# Altium schematic symbol library Schlib1.SchLib: 97 symbols (part 1 of 2)
Pins are listed as number, name and electrical type; pins without a type are passive.

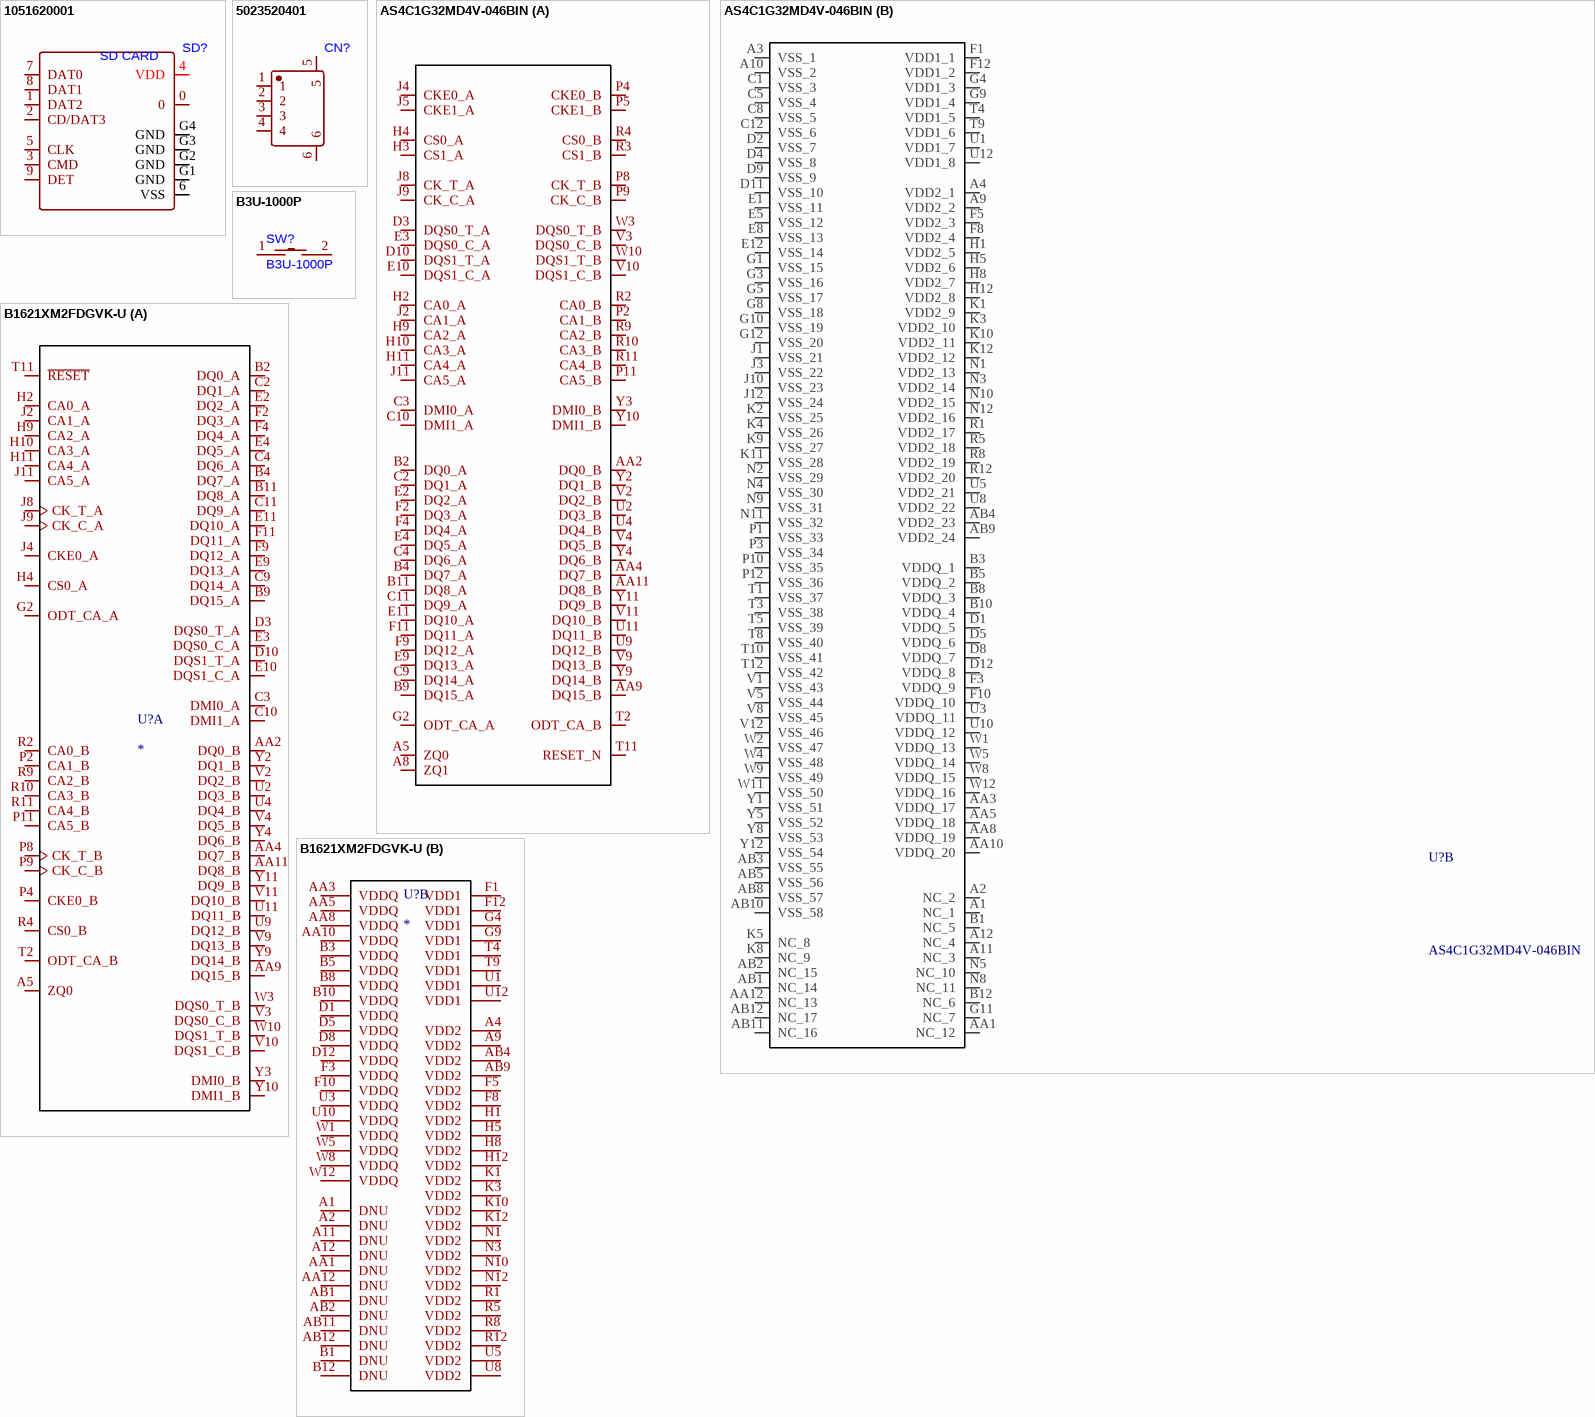
[diagram p0: symbols 1051620001 to B1621XM2FDGVK-U]

## 1051620001
designator SD?, comment SD CARD
CONN MICRO SD CARD (TF CARD)
footprint CONN-SMD_1051620101
pins: 0, 1 DAT2, 2 CD/DAT3, 3 CMD, 4 VDD, 5 CLK, 6 VSS, 7 DAT0, 8 DAT1, 9 DET, G1 GND, G2 GND, G3 GND, G4 GND

## 5023520401
designator CN?, comment SMD,P=2mm,Surface Mount,Right Angle  (value not drawn)
DuraClik(MX 2.0) 125V 4 1 2mm 3A Surface Mount, Right Angle Tin -40℃~+105℃ 4P Black 1x4P SMD,P=2mm,Surface Mount,Right Angle Headers, Male Pins RoHS
footprint CONN-SMD_4P-P2.00_WTBA0-BH004
pins: 1, 2, 3, 4, 5, 6

## AS4C1G32MD4V-046BIN
designator U?
DRAM LPDDR4X, 32Gb, 1G X 32, 0.6v, 200ball TFBGA,2133MHZ,industrial Temp; Manufacturer_Name: Alliance Memory; Geometry.Height: 1mm; Manufacturer_Part_Number: AS4C1G32MD4V-046BIN; Mouser Part Number: 913-AS4C1G32MD4046BI; Mouser Price/Stock: https://www.mouser.co.uk/ProductDetail/Alliance-Memory/AS4C1G32MD4V-046BIN?qs=2wMNvWM5ZX7JcOV9cKEgAg%3D%3D; Arrow Part Number: *; Arrow Price/Stock: *; Datasheet Link: https://www.alliancememory.com/wp-content/uploads/pdf/ddr4/AllianceMemory_8Gb_16Gb_32Gb_LPDDR4X_AS4C512M16MD4V_AS4C512M32MD4V_AS4C1G32MD4V.pdf
footprint BGA200C65P12X22_1000X1500X100
part A pins: A5 ZQ0, A8 ZQ1, AA2 DQ0_B, AA4 DQ7_B, AA9 DQ15_B, AA11 DQ8_B, B2 DQ0_A, B4 DQ7_A, B9 DQ15_A, B11 DQ8_A, C2 DQ1_A, C3 DMI0_A, C4 DQ6_A, C9 DQ14_A, C10 DMI1_A, C11 DQ9_A, D3 DQS0_T_A, D10 DQS1_T_A, E2 DQ2_A, E3 DQS0_C_A, E4 DQ5_A, E9 DQ13_A, E10 DQS1_C_A, E11 DQ10_A, F2 DQ3_A, F4 DQ4_A, F9 DQ12_A, F11 DQ11_A, G2 ODT_CA_A, H2 CA0_A, H3 CS1_A, H4 CS0_A, H9 CA2_A, H10 CA3_A, H11 CA4_A, J2 CA1_A, J4 CKE0_A, J5 CKE1_A, J8 CK_T_A, J9 CK_C_A, J11 CA5_A, P2 CA1_B, P4 CKE0_B, P5 CKE1_B, P8 CK_T_B, P9 CK_C_B, P11 CA5_B, R2 CA0_B, R3 CS1_B, R4 CS0_B, R9 CA2_B, R10 CA3_B, R11 CA4_B, T2 ODT_CA_B, T11 RESET_N, U2 DQ3_B, U4 DQ4_B, U9 DQ12_B, U11 DQ11_B, V2 DQ2_B, V3 DQS0_C_B, V4 DQ5_B, V9 DQ13_B, V10 DQS1_C_B, V11 DQ10_B, W3 DQS0_T_B, W10 DQS1_T_B, Y2 DQ1_B, Y3 DMI0_B, Y4 DQ6_B, Y9 DQ14_B, Y10 DMI1_B, Y11 DQ9_B
part B pins: A1 NC_1, A2 NC_2, A3 VSS_1, A4 VDD2_1, A9 VDD2_2, A10 VSS_2, A11 NC_3, A12 NC_4, AA1 NC_12, AA3 VDDQ_17, AA5 VDDQ_18, AA8 VDDQ_19, AA10 VDDQ_20, AA12 NC_13, AB1 NC_14, AB2 NC_15, AB3 VSS_55, AB4 VDD2_23, AB5 VSS_56, AB8 VSS_57, AB9 VDD2_24, AB10 VSS_58, AB11 NC_16, AB12 NC_17, B1 NC_5, B3 VDDQ_1, B5 VDDQ_2, B8 VDDQ_3, B10 VDDQ_4, B12 NC_6, C1 VSS_3, C5 VSS_4, C8 VSS_5, C12 VSS_6, D1 VDDQ_5, D2 VSS_7, D4 VSS_8, D5 VDDQ_6, D8 VDDQ_7, D9 VSS_9, D11 VSS_10, D12 VDDQ_8, E1 VSS_11, E5 VSS_12, E8 VSS_13, E12 VSS_14, F1 VDD1_1, F3 VDDQ_9, F5 VDD2_3, F8 VDD2_4, F10 VDDQ_10, F12 VDD1_2, G1 VSS_15, G3 VSS_16, G4 VDD1_3, G5 VSS_17, G8 VSS_18, G9 VDD1_4, G10 VSS_19, G11 NC_7, G12 VSS_20, H1 VDD2_5, H5 VDD2_6, H8 VDD2_7, H12 VDD2_8, J1 VSS_21, J3 VSS_22, J10 VSS_23, J12 VSS_24, K1 VDD2_9, K2 VSS_25, K3 VDD2_10, K4 VSS_26, K5 NC_8, K8 NC_9, K9 VSS_27, K10 VDD2_11, K11 VSS_28, K12 VDD2_12, N1 VDD2_13, N2 VSS_29, N3 VDD2_14, N4 VSS_30, N5 NC_10, N8 NC_11, N9 VSS_31, N10 VDD2_15, N11 VSS_32, N12 VDD2_16, P1 VSS_33, P3 VSS_34, P10 VSS_35, P12 VSS_36, R1 VDD2_17, R5 VDD2_18, R8 VDD2_19, R12 VDD2_20, T1 VSS_37, T3 VSS_38, T4 VDD1_5, T5 VSS_39, T8 VSS_40, T9 VDD1_6, T10 VSS_41, T12 VSS_42, U1 VDD1_7, U3 VDDQ_11, U5 VDD2_21, U8 VDD2_22, U10 VDDQ_12, U12 VDD1_8, V1 VSS_43, V5 VSS_44, V8 VSS_45, V12 VSS_46, W1 VDDQ_13, W2 VSS_47, W4 VSS_48, W5 VDDQ_14, W8 VDDQ_15, W9 VSS_49, W11 VSS_50, W12 VDDQ_16, Y1 VSS_51, Y5 VSS_52, Y8 VSS_53, Y12 VSS_54

## B3U-1000P
designator SW?
12V 2.5mm Round Button 3mm SPST 50mA SMD,3x2.5mm Tactile Switches ROHS
footprint KEY-SMD_B3U-1000PM
pins: 1, 2

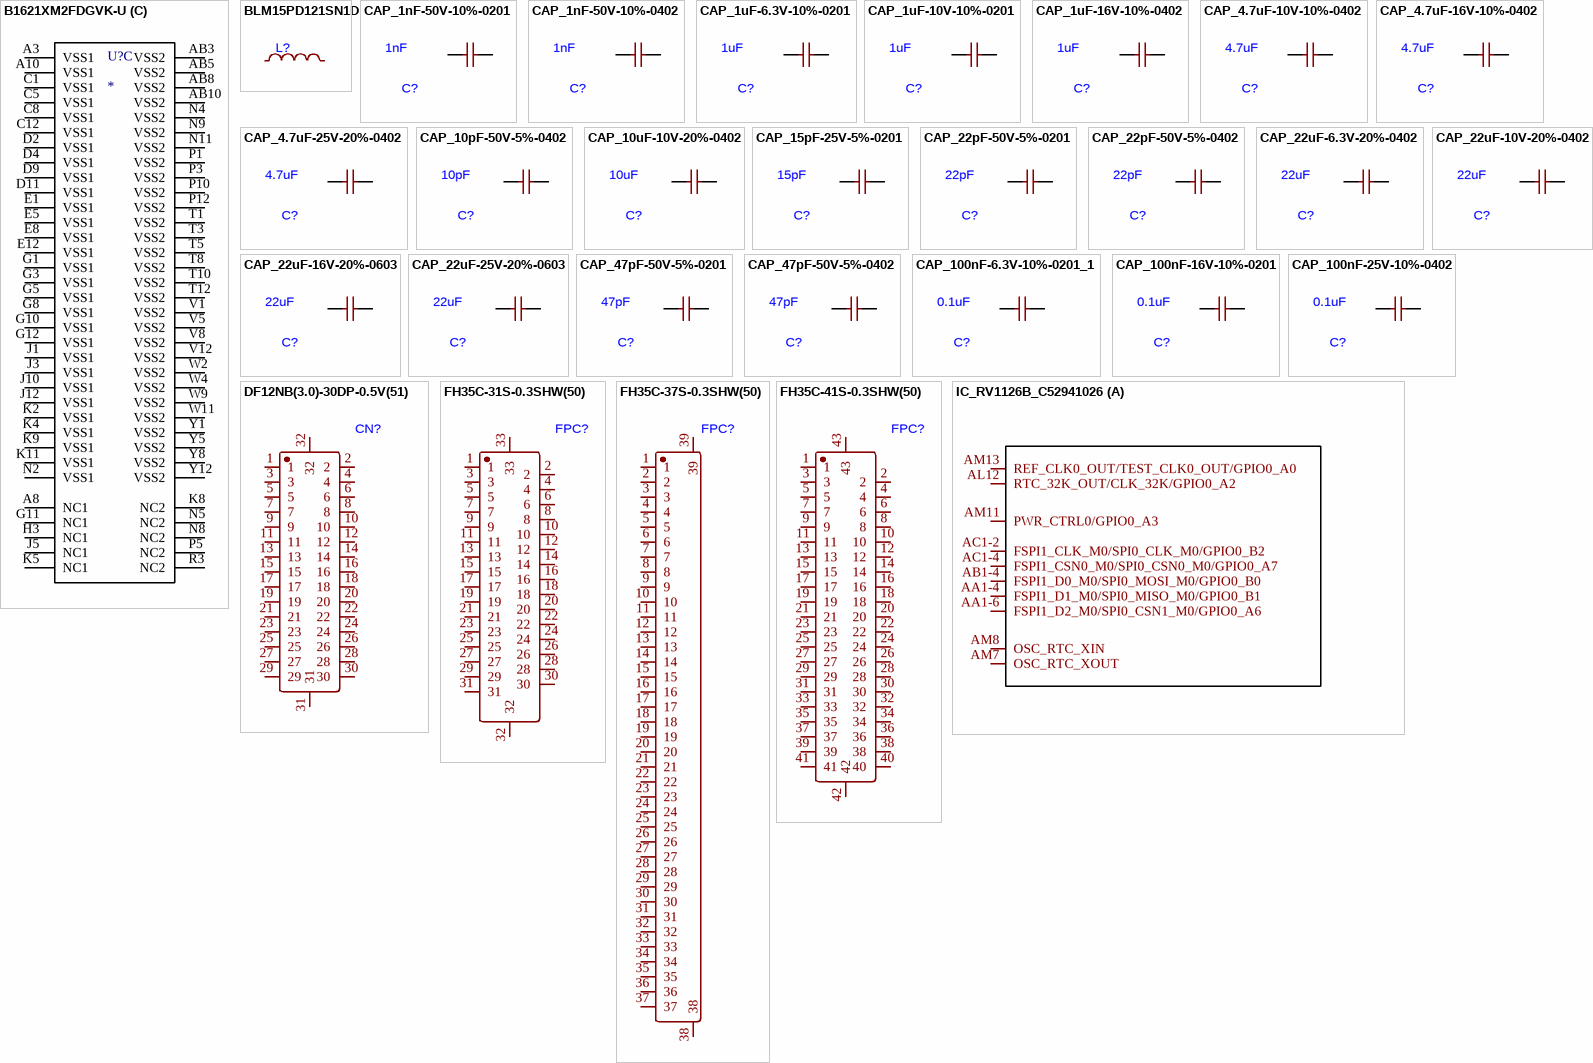
[diagram p1: symbols B1621XM2FDGVK-U to IC_RV1126B_C52941026]

## B1621XM2FDGVK-U
designator U?
MP: B1621XM2FDGVK-U; Package: None; Price: None; Value: *; Availability: Unavailable
footprint IC_B1621XM2FDGVK-U
part A pins: A5 ZQ0, AA2 DQ0_B, AA4 DQ7_B, AA9 DQ15_B, AA11 DQ8_B, B2 DQ0_A, B4 DQ7_A, B9 DQ15_A, B11 DQ8_A, C2 DQ1_A, C3 DMI0_A, C4 DQ6_A, C9 DQ14_A, C10 DMI1_A, C11 DQ9_A, D3 DQS0_T_A, D10 DQS1_T_A, E2 DQ2_A, E3 DQS0_C_A, E4 DQ5_A, E9 DQ13_A, E10 DQS1_C_A, E11 DQ10_A, F2 DQ3_A, F4 DQ4_A, F9 DQ12_A, F11 DQ11_A, G2 ODT_CA_A, H2 CA0_A, H4 CS0_A, H9 CA2_A, H10 CA3_A, H11 CA4_A, J2 CA1_A, J4 CKE0_A, J8 CK_T_A, J9 CK_C_A, J11 CA5_A, P2 CA1_B, P4 CKE0_B, P8 CK_T_B, P9 CK_C_B, P11 CA5_B, R2 CA0_B, R4 CS0_B, R9 CA2_B, R10 CA3_B, R11 CA4_B, T2 ODT_CA_B, T11 ~{RESET}, U2 DQ3_B, U4 DQ4_B, U9 DQ12_B, U11 DQ11_B, V2 DQ2_B, V3 DQS0_C_B, V4 DQ5_B, V9 DQ13_B, V10 DQS1_C_B, V11 DQ10_B, W3 DQS0_T_B, W10 DQS1_T_B, Y2 DQ1_B, Y3 DMI0_B, Y4 DQ6_B, Y9 DQ14_B, Y10 DMI1_B, Y11 DQ9_B
part B pins: A1 DNU, A2 DNU, A4 VDD2 (power), A9 VDD2 (power), A11 DNU, A12 DNU, AA1 DNU, AA3 VDDQ (power), AA5 VDDQ (power), AA8 VDDQ (power), AA10 VDDQ (power), AA12 DNU, AB1 DNU, AB2 DNU, AB4 VDD2 (power), AB9 VDD2 (power), AB11 DNU, AB12 DNU, B1 DNU, B3 VDDQ (power), B5 VDDQ (power), B8 VDDQ (power), B10 VDDQ (power), B12 DNU, D1 VDDQ (power), D5 VDDQ (power), D8 VDDQ (power), D12 VDDQ (power), F1 VDD1 (power), F3 VDDQ (power), F5 VDD2 (power), F8 VDD2 (power), F10 VDDQ (power), F12 VDD1 (power), G4 VDD1 (power), G9 VDD1 (power), H1 VDD2 (power), H5 VDD2 (power), H8 VDD2 (power), H12 VDD2 (power), K1 VDD2 (power), K3 VDD2 (power), K10 VDD2 (power), K12 VDD2 (power), N1 VDD2 (power), N3 VDD2 (power), N10 VDD2 (power), N12 VDD2 (power), R1 VDD2 (power), R5 VDD2 (power), R8 VDD2 (power), R12 VDD2 (power), T4 VDD1 (power), T9 VDD1 (power), U1 VDD1 (power), U3 VDDQ (power), U5 VDD2 (power), U8 VDD2 (power), U10 VDDQ (power), U12 VDD1 (power), W1 VDDQ (power), W5 VDDQ (power), W8 VDDQ (power), W12 VDDQ (power)
part C pins: A3 VSS1 (power), A8 NC1, A10 VSS1 (power), AB3 VSS2 (power), AB5 VSS2 (power), AB8 VSS2 (power), AB10 VSS2 (power), C1 VSS1 (power), C5 VSS1 (power), C8 VSS1 (power), C12 VSS1 (power), D2 VSS1 (power), D4 VSS1 (power), D9 VSS1 (power), D11 VSS1 (power), E1 VSS1 (power), E5 VSS1 (power), E8 VSS1 (power), E12 VSS1 (power), G1 VSS1 (power), G3 VSS1 (power), G5 VSS1 (power), G8 VSS1 (power), G10 VSS1 (power), G11 NC1, G12 VSS1 (power), H3 NC1, J1 VSS1 (power), J3 VSS1 (power), J5 NC1, J10 VSS1 (power), J12 VSS1 (power), K2 VSS1 (power), K4 VSS1 (power), K5 NC1, K8 NC2, K9 VSS1 (power), K11 VSS1 (power), N2 VSS1 (power), N4 VSS2 (power), N5 NC2, N8 NC2, N9 VSS2 (power), N11 VSS2 (power), P1 VSS2 (power), P3 VSS2 (power), P5 NC2, P10 VSS2 (power), P12 VSS2 (power), R3 NC2, T1 VSS2 (power), T3 VSS2 (power), T5 VSS2 (power), T8 VSS2 (power), T10 VSS2 (power), T12 VSS2 (power), V1 VSS2 (power), V5 VSS2 (power), V8 VSS2 (power), V12 VSS2 (power), W2 VSS2 (power), W4 VSS2 (power), W9 VSS2 (power), W11 VSS2 (power), Y1 VSS2 (power), Y5 VSS2 (power), Y8 VSS2 (power), Y12 VSS2 (power)

## BLM15PD121SN1D
designator L?, comment FERRITE BEAD 120Ω 0402 1LN  (value not drawn)
120 Ohms @ 100MHz 1 Power Line Ferrite Bead 0402 (1005 Metric) 1.3A 90mOhm
simulation model FB_220_ADV (Model Description)
footprint R0402 (0402)
pins: 1, 2

## CAP_1nF-50V-10%-0201
designator C?, comment 1nF
CAP CER 1nF 50V X7R 0201
footprint C0201
pins: 1, 2

## CAP_1nF-50V-10%-0402
designator C?, comment 1nF
CAP CER 1nF 50V X7R 0402
footprint C0603 (cap 0603)
pins: 1, 2

## CAP_1uF-6.3V-10%-0201
designator C?, comment 1uF
1uF ±10% 6.3V Ceramic Capacitor X5R 0201
footprint C0201
pins: 1, 2

## CAP_1uF-10V-10%-0201
designator C?, comment 1uF
1uF ±10% 10V Ceramic Capacitor X5R 0201
footprint C0201
pins: 1, 2

## CAP_1uF-16V-10%-0402
designator C?, comment 1uF
1µF ±10% 16V Ceramic Capacitor X5R 0402 (1005 Metric)
footprint C0402 (cap)
pins: 1, 2

## CAP_4.7uF-10V-10%-0402
designator C?, comment 4.7uF
4.7µF ±10% 10V Ceramic Capacitor X5R 0402 (1005 Metric)
footprint C0402 (cap)
pins: 1, 2

## CAP_4.7uF-16V-10%-0402
designator C?, comment 4.7uF
4.7uF ±10% 16V Ceramic Capacitor X5R 0402
footprint C0402 (cap)
pins: 1, 2

## CAP_4.7uF-25V-20%-0402
designator C?, comment 4.7uF
4.7uF ±20% 25V Ceramic Capacitor X5R 0402
footprint C0402 (cap)
pins: 1, 2

## CAP_10pF-50V-5%-0402
designator C?, comment 10pF
CAP CER 10pF 50V C0G 0402
footprint C0603 (cap 0603)
pins: 1, 2

## CAP_10uF-10V-20%-0402
designator C?, comment 10uF
10µF ±20% 10V Ceramic Capacitor X5R 0402 (1005 Metric)
footprint C0402 (cap)
pins: 1, 2

## CAP_15pF-25V-5%-0201
designator C?, comment 15pF
CAP CER 15pF 50V NP0 0201; ComponentLink1Description: LCSC; ComponentLink1URL: https://www.lcsc.com/product-detail/C277480.html?s_z=n_q_t_15PF&spm=wm.fly.bg.0.xh___wm.ssy.tc.0.tz&lcsc_vid=EwRWBFZSQVIPVFdUTlJfVldeFFRYUFQAElRYBFRRE1MxVlNeRFdcX11TTlBaVjsOAxUeFF5JWBYZEEoKFBINSQcJGk4NBhADEA4cHktXRlRZSQwSGg0%3D
footprint C0201
pins: 1, 2

## CAP_22pF-50V-5%-0201
designator C?, comment 22pF
CAP CER 22pF 50V NP0 0201
footprint C0201
pins: 1, 2

## CAP_22pF-50V-5%-0402
designator C?, comment 22pF
CAP CER 22pF 50V NP0 0402
footprint C0402 (cap)
pins: 1, 2

## CAP_22uF-6.3V-20%-0402
designator C?, comment 22uF
22uF X5R ±20% 6.3V 0402 Ceramic Capacitors RoHS; ComponentLink1Description: LCSC; ComponentLink1URL: https://www.lcsc.com/product-detail/C385994.html?s_z=n_q_t_22UF&spm=wm.fly.bg.2.xh___wm.ssy.tc.2.tz&lcsc_vid=EwRWBFZSQVIPVFdUTlJfVldeFFRYUFQAElRYBFRRE1MxVlNeRFZbX1BRRVlbVDsOAxUeFF5JWBYZEEoKFBINSQcJGk4NBhADEA4cHktXRlhXSQwSGg0%3D
footprint C0402 (cap)
pins: 1, 2

## CAP_22uF-10V-20%-0402
designator C?, comment 22uF
22uF X5R ±20% 10V 0402 Ceramic Capacitors RoHS; ComponentLink1Description: LCSC; ComponentLink1URL: https://www.lcsc.com/product-detail/C385994.html?s_z=n_q_t_22UF&spm=wm.fly.bg.2.xh___wm.ssy.tc.2.tz&lcsc_vid=EwRWBFZSQVIPVFdUTlJfVldeFFRYUFQAElRYBFRRE1MxVlNeRFZbX1BRRVlbVDsOAxUeFF5JWBYZEEoKFBINSQcJGk4NBhADEA4cHktXRlhXSQwSGg0%3D
footprint C0402 (cap)
pins: 1, 2

## CAP_22uF-16V-20%-0603
designator C?, comment 22uF
22uF ±20% 16V Ceramic Capacitor X5R 0603
footprint C0603 (cap 0603)
pins: 1, 2

## CAP_22uF-25V-20%-0603
designator C?, comment 22uF
22uF ±20% 25V Ceramic Capacitor X5R 0603
footprint C0603 (cap 0603)
pins: 1, 2

## CAP_47pF-50V-5%-0201
designator C?, comment 47pF
CAP CER  47pF ±5% 50V C0G 0201
footprint C0201
pins: 1, 2

## CAP_47pF-50V-5%-0402
designator C?, comment 47pF
4P7µF ±5% 50V Ceramic Capacitor X5R 0402 (1005 Metric); ComponentLink1Description: LCSC; ComponentLink1URL: https://www.lcsc.com/product-detail/C60137.html?s_z=n_q_t_47PF&spm=wm.fly.bg.1.xh___wm.ssy.tc.0.tz&lcsc_vid=EwRWBFZSQVIPVFdUTlJfVldeFFRYUFQAElRYBFRRE1MxVlNeRVlXVVRWRlJYVDsOAxUeFF5JWBYZEEoKFBINSQcJGk4NBhADEA4cHktXRlVcSQwSGg0%3D
footprint C0402 (cap)
pins: 1, 2

## CAP_100nF-6.3V-10%-0201_1
designator C?, comment 0.1uF
0.1uF ±10% 6.3V Ceramic Capacitor X5R 0201
footprint C0201
pins: 1, 2

## CAP_100nF-16V-10%-0201
designator C?, comment 0.1uF
CAP CER 100nF 16V X5R 0201
footprint C0201
pins: 1, 2

## CAP_100nF-25V-10%-0402
designator C?, comment 0.1uF
0.1µF ±10% 25V Ceramic Capacitor X7R 0402 (1005 Metric)
footprint C0402 (cap)
pins: 1, 2

## DF12NB(3.0)-30DP-0.5V(51)
designator CN?  (value not drawn)
0.5mm Pitch SMT Board-to-Board Connectors, 5Gbps Transmission Speed
footprint CONN-SMD_30P-P0.50_HRS_DF12NB-3.0-30DP-0.5V
pins: 1, 2, 3, 4, 5, 6, 7, 8, 9, 10, 11, 12, 13, 14, 15, 16, 17, 18, 19, 20, 21, 22, 23, 24, 25, 26, 27, 28, 29, 30, 31, 32

## FH35C-31S-0.3SHW(50)
designator FPC?  (value not drawn)
CONN FFC FPC 31POS 0.3mm TOP AND BOTTOM CNT SMD R/A
footprint CONN-SMD_31P-P0.6_FH35C-31S-0.3SHW-50
pins: 1, 2, 3, 4, 5, 6, 7, 8, 9, 10, 11, 12, 13, 14, 15, 16, 17, 18, 19, 20, 21, 22, 23, 24, 25, 26, 27, 28, 29, 30, 31, 32, 33

## FH35C-37S-0.3SHW(50)
designator FPC?  (value not drawn)
FFC/FPC Connector 37 Position 0.3mm Pitch Double-Sided Contacts, Top and Bottom Entry Surface Mount, Right Angle -55℃~+85℃
footprint FPC-SMD_37P-P0.60_FH35C-37S-0.3SHW-50
pins: 1, 2, 3, 4, 5, 6, 7, 8, 9, 10, 11, 12, 13, 14, 15, 16, 17, 18, 19, 20, 21, 22, 23, 24, 25, 26, 27, 28, 29, 30, 31, 32, 33, 34, 35, 36, 37, 38, 39

## FH35C-41S-0.3SHW(50)
designator FPC?  (value not drawn)
CONN FFC FPC 41POS 0.3mm TOP AND BOTTOM CNT SMD R/A
footprint FPC-SMD_FH35C-41S-0.3SHW-50
pins: 1, 2, 3, 4, 5, 6, 7, 8, 9, 10, 11, 12, 13, 14, 15, 16, 17, 18, 19, 20, 21, 22, 23, 24, 25, 26, 27, 28, 29, 30, 31, 32, 33, 34, 35, 36, 37, 38, 39, 40, 41, 42, 43

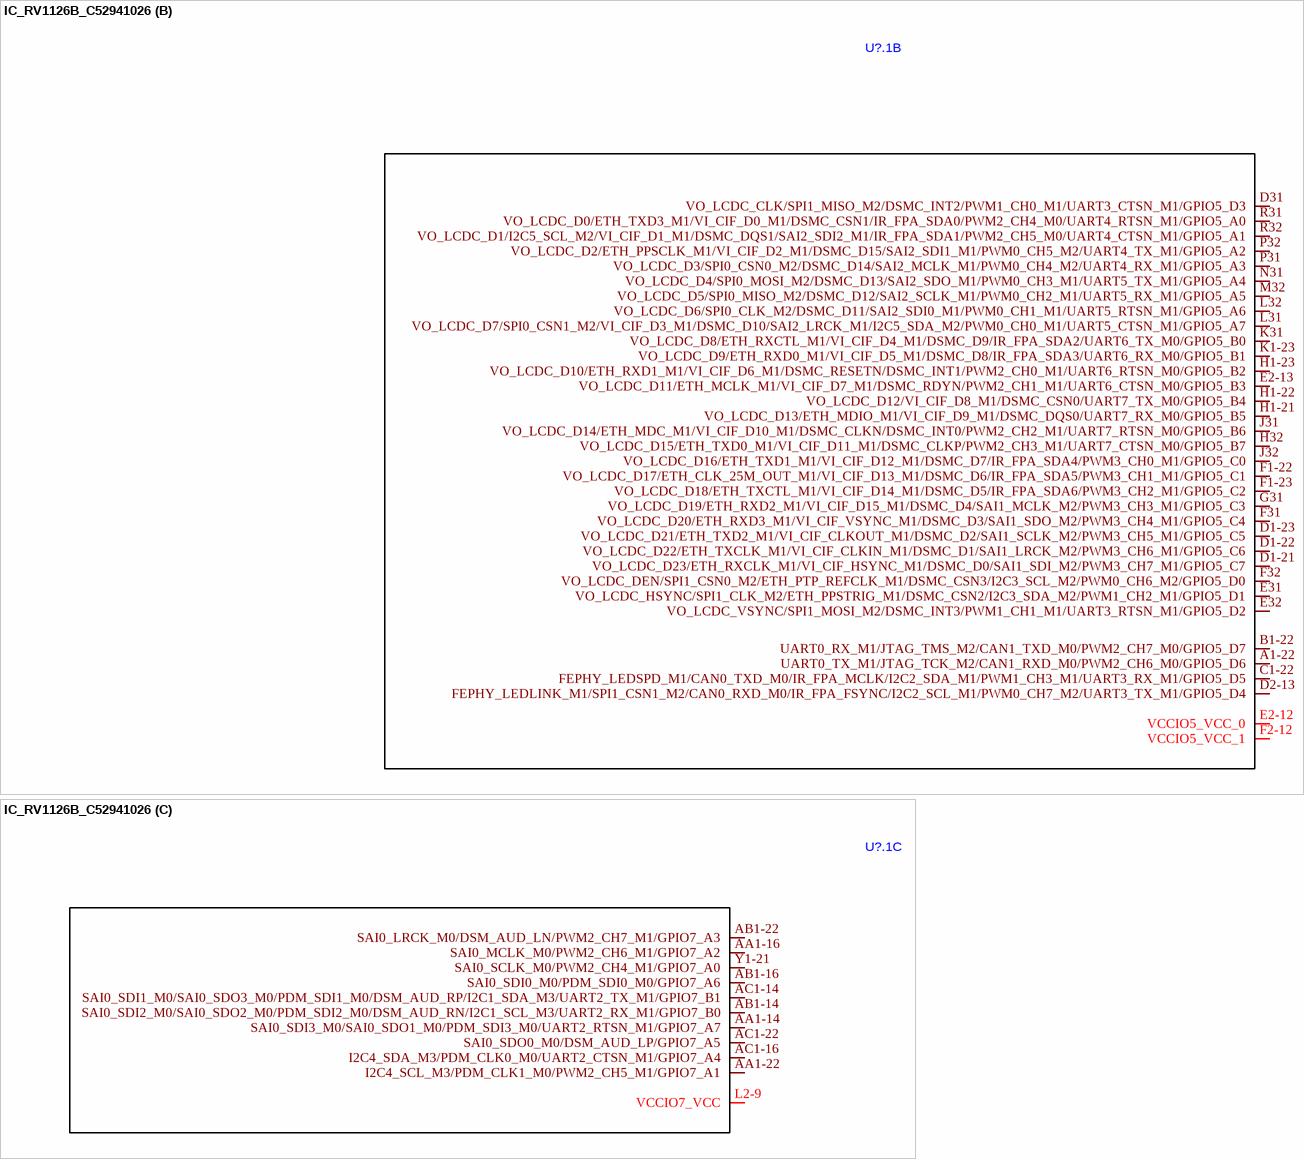
[diagram p2: symbol IC_RV1126B_C52941026]

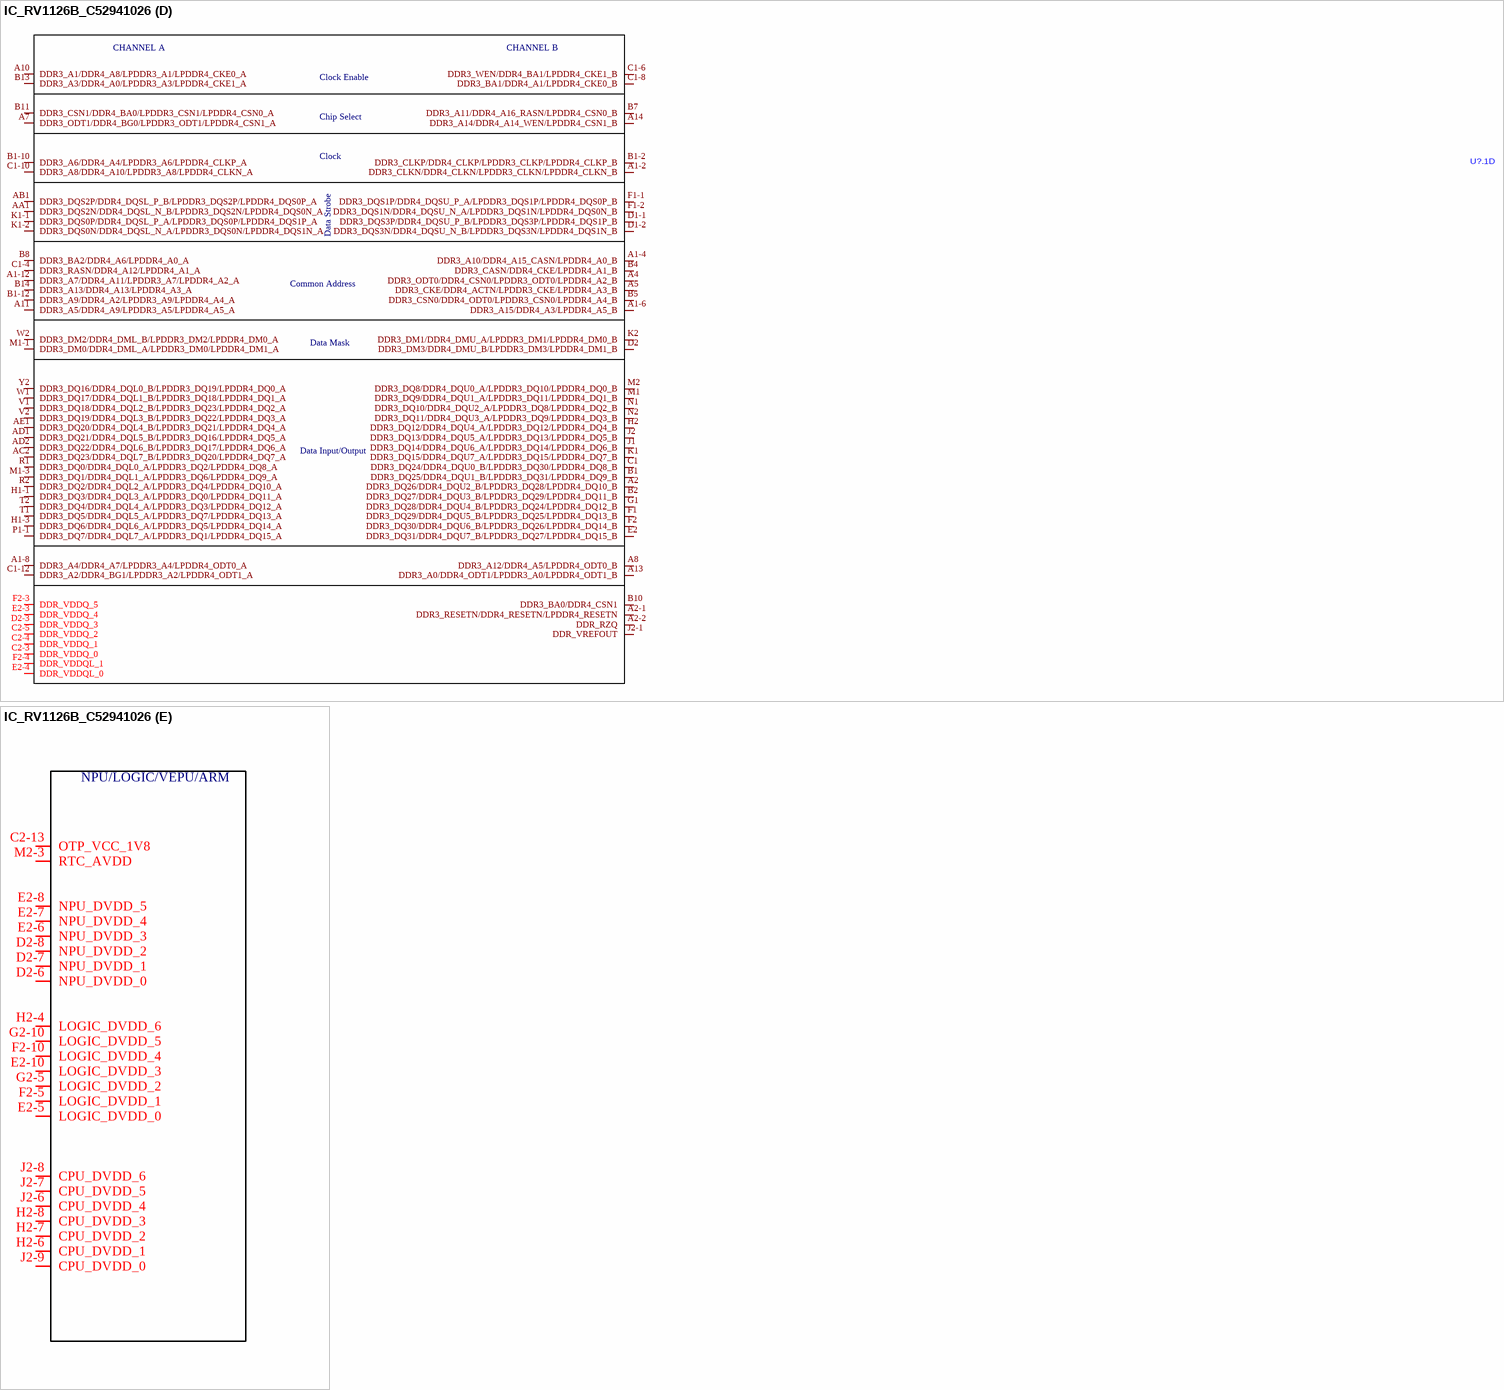
[diagram p3: symbol IC_RV1126B_C52941026]

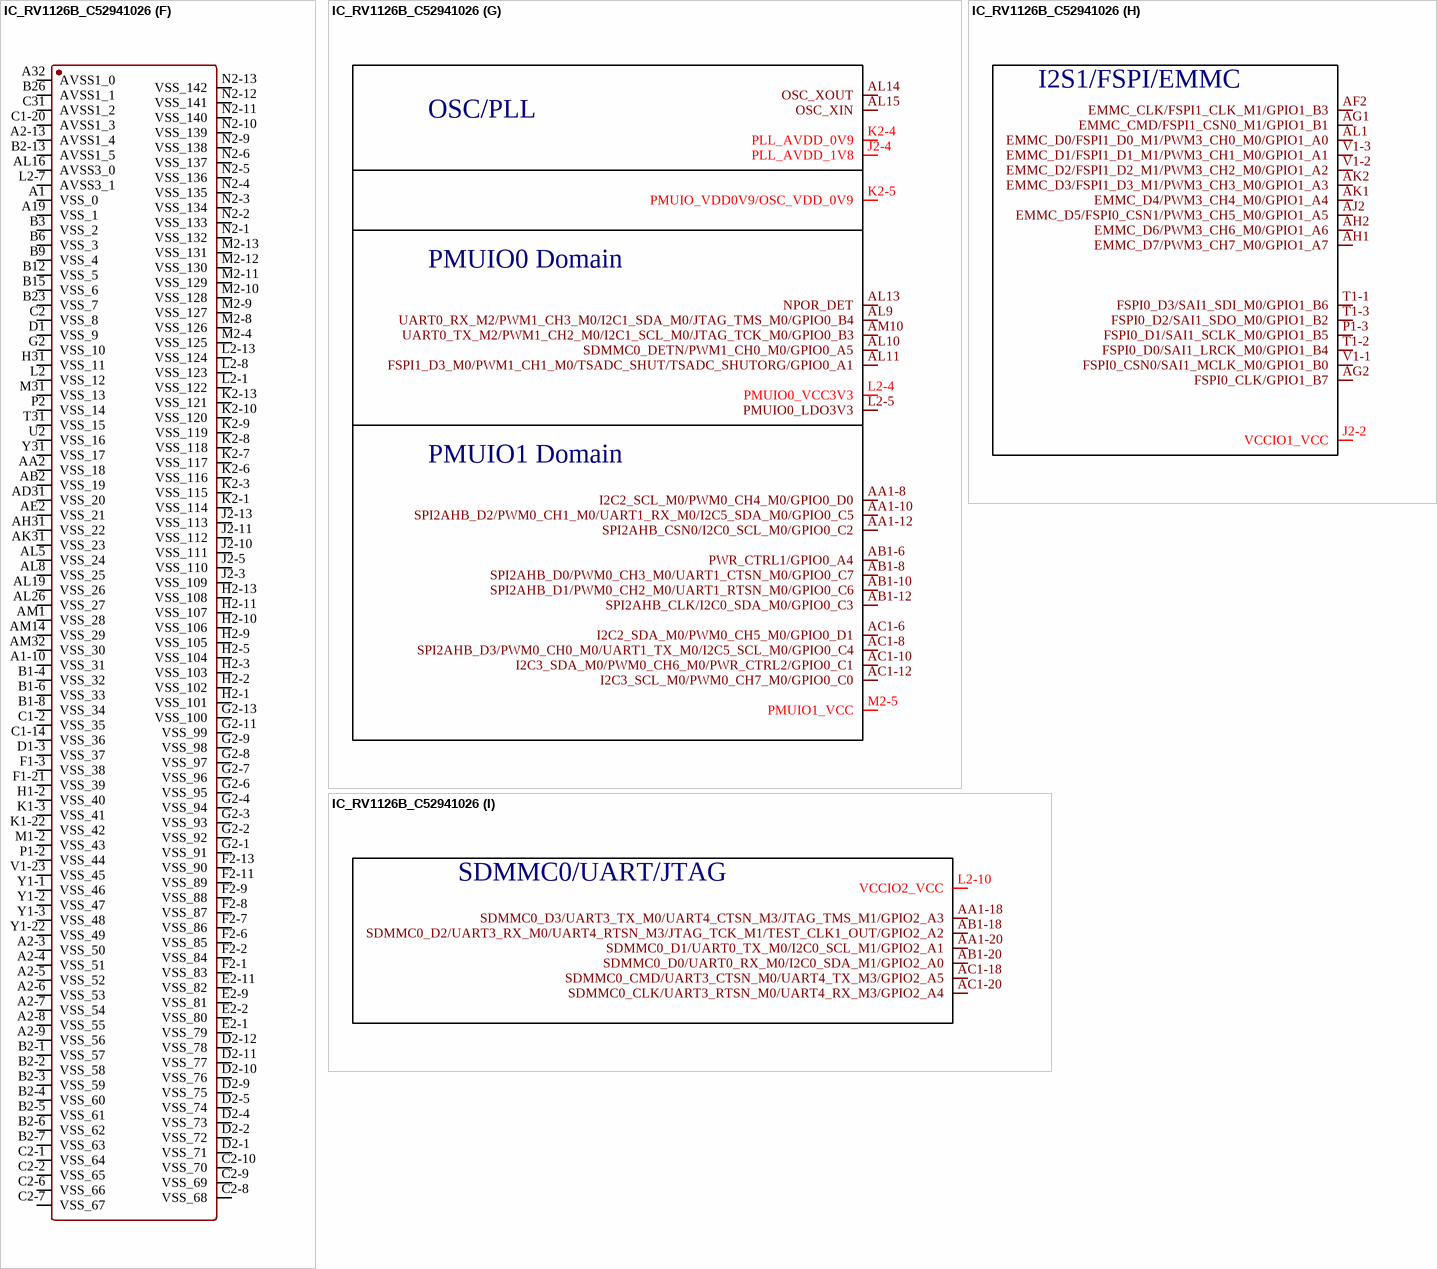
[diagram p4: symbol IC_RV1126B_C52941026]

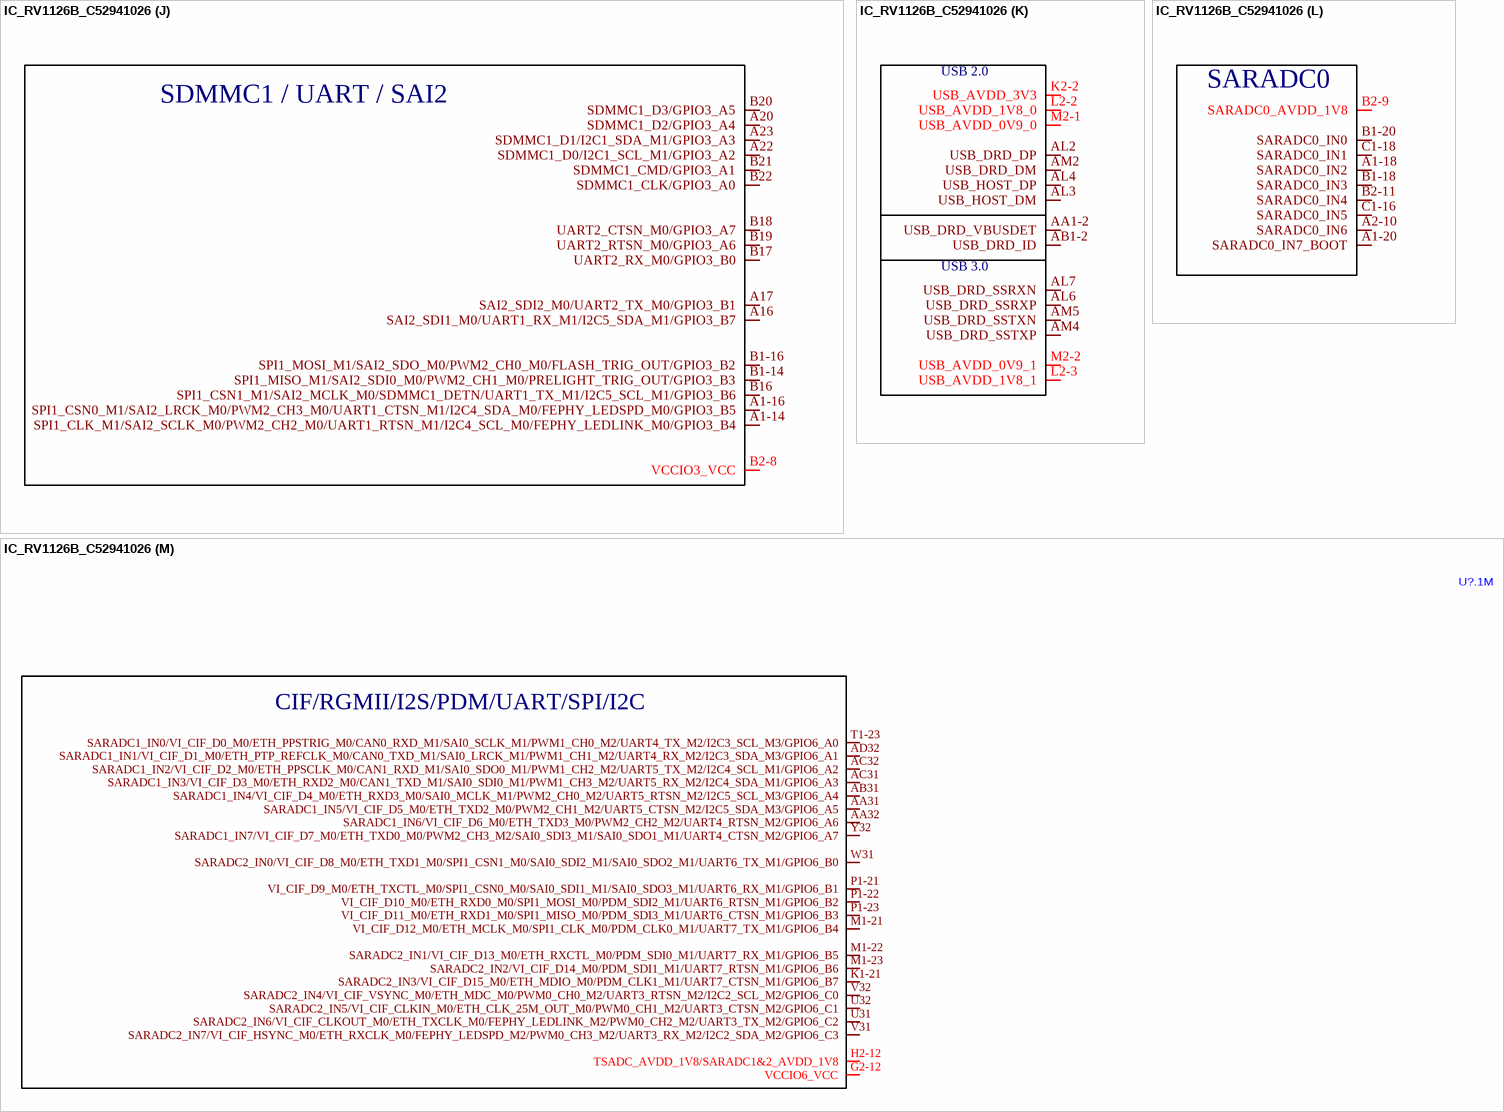
[diagram p5: symbol IC_RV1126B_C52941026]

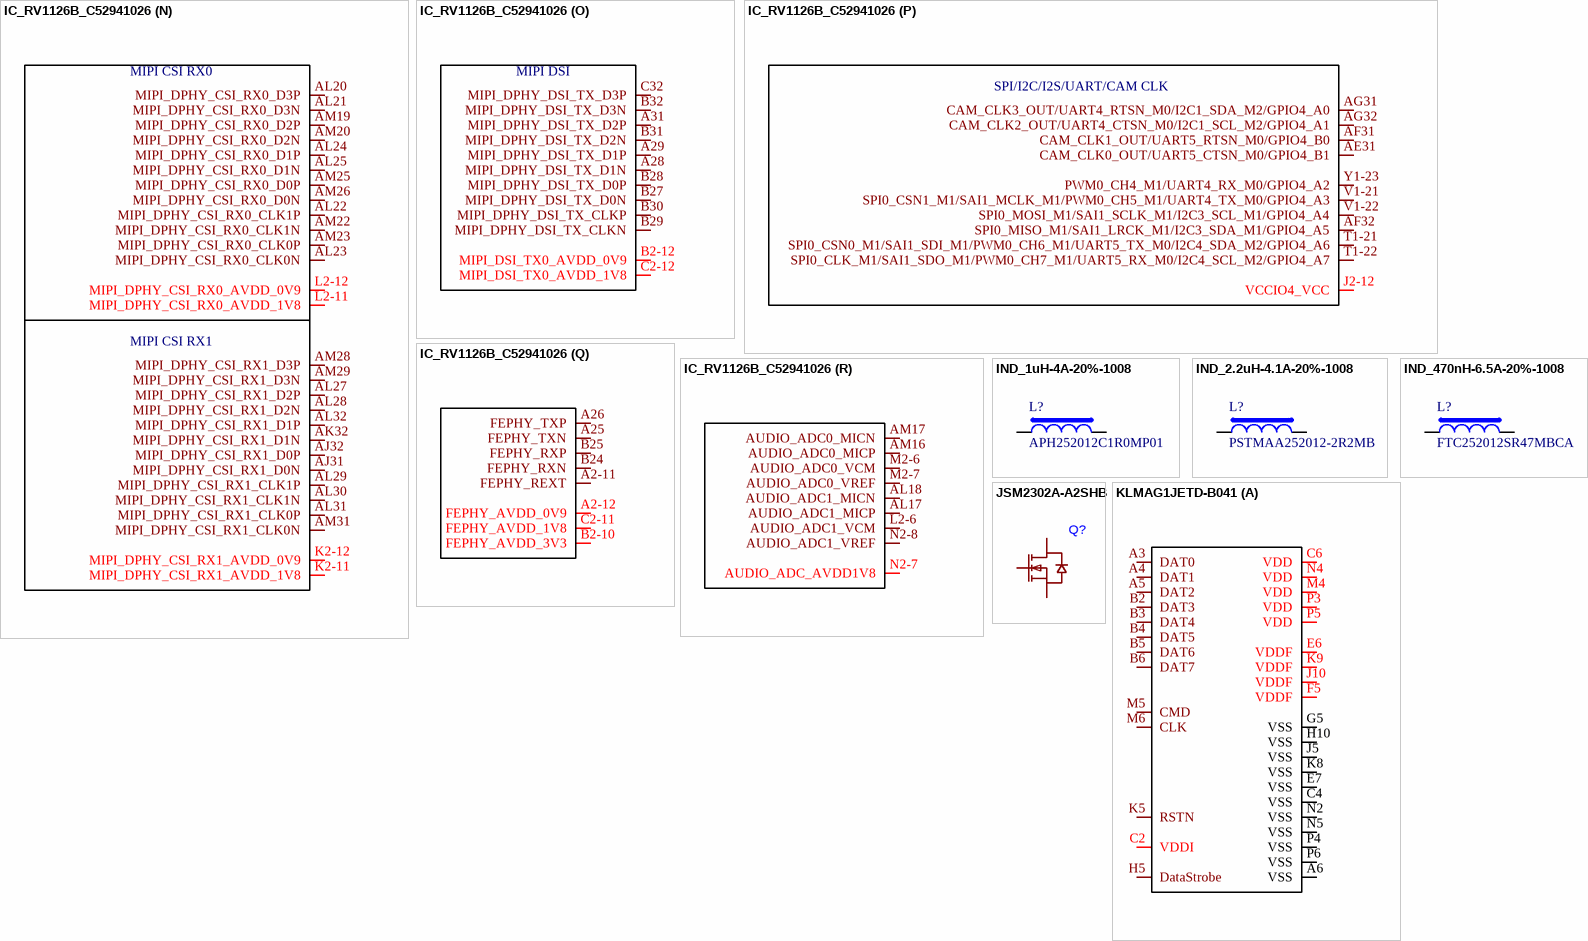
[diagram p6: symbols IC_RV1126B_C52941026 to KLMAG1JETD-B041]

## IC_RV1126B_C52941026
designator U?.1
footprint CCSP-491_L14.0-W14.0-TL_RV1126B
part A pins: AA1-4 FSPI1_D1_M0/SPI0_MISO_M0/GPIO0_B1, AA1-6 FSPI1_D2_M0/SPI0_CSN1_M0/GPIO0_A6, AB1-4 FSPI1_D0_M0/SPI0_MOSI_M0/GPIO0_B0, AC1-2 FSPI1_CLK_M0/SPI0_CLK_M0/GPIO0_B2, AC1-4 FSPI1_CSN0_M0/SPI0_CSN0_M0/GPIO0_A7, AL12 RTC_32K_OUT/CLK_32K/GPIO0_A2, AM7 OSC_RTC_XOUT, AM8 OSC_RTC_XIN, AM11 PWR_CTRL0/GPIO0_A3, AM13 REF_CLK0_OUT/TEST_CLK0_OUT/GPIO0_A0
part B pins: A1-22 UART0_TX_M1/JTAG_TCK_M2/CAN1_RXD_M0/PWM2_CH6_M0/GPIO5_D6, B1-22 UART0_RX_M1/JTAG_TMS_M2/CAN1_TXD_M0/PWM2_CH7_M0/GPIO5_D7, C1-22 FEPHY_LEDSPD_M1/CAN0_TXD_M0/IR_FPA_MCLK/I2C2_SDA_M1/PWM1_CH3_M1/UART3_RX_M1/GPIO5_D5, D1-21 VO_LCDC_D23/ETH_RXCLK_M1/VI_CIF_HSYNC_M1/DSMC_D0/SAI1_SDI_M2/PWM3_CH7_M1/GPIO5_C7, D1-22 VO_LCDC_D22/ETH_TXCLK_M1/VI_CIF_CLKIN_M1/DSMC_D1/SAI1_LRCK_M2/PWM3_CH6_M1/GPIO5_C6, D1-23 VO_LCDC_D21/ETH_TXD2_M1/VI_CIF_CLKOUT_M1/DSMC_D2/SAI1_SCLK_M2/PWM3_CH5_M1/GPIO5_C5, D2-13 FEPHY_LEDLINK_M1/SPI1_CSN1_M2/CAN0_RXD_M0/IR_FPA_FSYNC/I2C2_SCL_M1/PWM0_CH7_M2/UART3_TX_M1/GPIO5_D4, D31 VO_LCDC_CLK/SPI1_MISO_M2/DSMC_INT2/PWM1_CH0_M1/UART3_CTSN_M1/GPIO5_D3, E2-12 VCCIO5_VCC_0, E2-13 VO_LCDC_D11/ETH_MCLK_M1/VI_CIF_D7_M1/DSMC_RDYN/PWM2_CH1_M1/UART6_CTSN_M0/GPIO5_B3, E31 VO_LCDC_HSYNC/SPI1_CLK_M2/ETH_PPSTRIG_M1/DSMC_CSN2/I2C3_SDA_M2/PWM1_CH2_M1/GPIO5_D1, E32 VO_LCDC_VSYNC/SPI1_MOSI_M2/DSMC_INT3/PWM1_CH1_M1/UART3_RTSN_M1/GPIO5_D2, F1-22 VO_LCDC_D17/ETH_CLK_25M_OUT_M1/VI_CIF_D13_M1/DSMC_D6/IR_FPA_SDA5/PWM3_CH1_M1/GPIO5_C1, F1-23 VO_LCDC_D18/ETH_TXCTL_M1/VI_CIF_D14_M1/DSMC_D5/IR_FPA_SDA6/PWM3_CH2_M1/GPIO5_C2, F2-12 VCCIO5_VCC_1, F31 VO_LCDC_D20/ETH_RXD3_M1/VI_CIF_VSYNC_M1/DSMC_D3/SAI1_SDO_M2/PWM3_CH4_M1/GPIO5_C4, F32 VO_LCDC_DEN/SPI1_CSN0_M2/ETH_PTP_REFCLK_M1/DSMC_CSN3/I2C3_SCL_M2/PWM0_CH6_M2/GPIO5_D0, G31 VO_LCDC_D19/ETH_RXD2_M1/VI_CIF_D15_M1/DSMC_D4/SAI1_MCLK_M2/PWM3_CH3_M1/GPIO5_C3, H1-21 VO_LCDC_D13/ETH_MDIO_M1/VI_CIF_D9_M1/DSMC_DQS0/UART7_RX_M0/GPIO5_B5, H1-22 VO_LCDC_D12/VI_CIF_D8_M1/DSMC_CSN0/UART7_TX_M0/GPIO5_B4, H1-23 VO_LCDC_D10/ETH_RXD1_M1/VI_CIF_D6_M1/DSMC_RESETN/DSMC_INT1/PWM2_CH0_M1/UART6_RTSN_M0/GPIO5_B2, H32 VO_LCDC_D15/ETH_TXD0_M1/VI_CIF_D11_M1/DSMC_CLKP/PWM2_CH3_M1/UART7_CTSN_M0/GPIO5_B7, J31 VO_LCDC_D14/ETH_MDC_M1/VI_CIF_D10_M1/DSMC_CLKN/DSMC_INT0/PWM2_CH2_M1/UART7_RTSN_M0/GPIO5_B6, J32 VO_LCDC_D16/ETH_TXD1_M1/VI_CIF_D12_M1/DSMC_D7/IR_FPA_SDA4/PWM3_CH0_M1/GPIO5_C0, K1-23 VO_LCDC_D9/ETH_RXD0_M1/VI_CIF_D5_M1/DSMC_D8/IR_FPA_SDA3/UART6_RX_M0/GPIO5_B1, K31 VO_LCDC_D8/ETH_RXCTL_M1/VI_CIF_D4_M1/DSMC_D9/IR_FPA_SDA2/UART6_TX_M0/GPIO5_B0, L31 VO_LCDC_D7/SPI0_CSN1_M2/VI_CIF_D3_M1/DSMC_D10/SAI2_LRCK_M1/I2C5_SDA_M2/PWM0_CH0_M1/UART5_CTSN_M1/GPIO5_A7, L32 VO_LCDC_D6/SPI0_CLK_M2/DSMC_D11/SAI2_SDI0_M1/PWM0_CH1_M1/UART5_RTSN_M1/GPIO5_A6, M32 VO_LCDC_D5/SPI0_MISO_M2/DSMC_D12/SAI2_SCLK_M1/PWM0_CH2_M1/UART5_RX_M1/GPIO5_A5, N31 VO_LCDC_D4/SPI0_MOSI_M2/DSMC_D13/SAI2_SDO_M1/PWM0_CH3_M1/UART5_TX_M1/GPIO5_A4, P31 VO_LCDC_D3/SPI0_CSN0_M2/DSMC_D14/SAI2_MCLK_M1/PWM0_CH4_M2/UART4_RX_M1/GPIO5_A3, P32 VO_LCDC_D2/ETH_PPSCLK_M1/VI_CIF_D2_M1/DSMC_D15/SAI2_SDI1_M1/PWM0_CH5_M2/UART4_TX_M1/GPIO5_A2, R31 VO_LCDC_D0/ETH_TXD3_M1/VI_CIF_D0_M1/DSMC_CSN1/IR_FPA_SDA0/PWM2_CH4_M0/UART4_RTSN_M1/GPIO5_A0, R32 VO_LCDC_D1/I2C5_SCL_M2/VI_CIF_D1_M1/DSMC_DQS1/SAI2_SDI2_M1/IR_FPA_SDA1/PWM2_CH5_M0/UART4_CTSN_M1/GPIO5_A1
part C pins: AA1-14 SAI0_SDI3_M0/SAI0_SDO1_M0/PDM_SDI3_M0/UART2_RTSN_M1/GPIO7_A7, AA1-16 SAI0_MCLK_M0/PWM2_CH6_M1/GPIO7_A2, AA1-22 I2C4_SCL_M3/PDM_CLK1_M0/PWM2_CH5_M1/GPIO7_A1, AB1-14 SAI0_SDI2_M0/SAI0_SDO2_M0/PDM_SDI2_M0/DSM_AUD_RN/I2C1_SCL_M3/UART2_RX_M1/GPIO7_B0, AB1-16 SAI0_SDI0_M0/PDM_SDI0_M0/GPIO7_A6, AB1-22 SAI0_LRCK_M0/DSM_AUD_LN/PWM2_CH7_M1/GPIO7_A3, AC1-14 SAI0_SDI1_M0/SAI0_SDO3_M0/PDM_SDI1_M0/DSM_AUD_RP/I2C1_SDA_M3/UART2_TX_M1/GPIO7_B1, AC1-16 I2C4_SDA_M3/PDM_CLK0_M0/UART2_CTSN_M1/GPIO7_A4, AC1-22 SAI0_SDO0_M0/DSM_AUD_LP/GPIO7_A5, L2-9 VCCIO7_VCC, Y1-21 SAI0_SCLK_M0/PWM2_CH4_M1/GPIO7_A0
part D pins: A1-2 DDR3_CLKN/DDR4_CLKN/LPDDR3_CLKN/LPDDR4_CLKN_B, A1-4 DDR3_A10/DDR4_A15_CASN/LPDDR4_A0_B, A1-6 DDR3_A15/DDR4_A3/LPDDR4_A5_B, A1-8 DDR3_A4/DDR4_A7/LPDDR3_A4/LPDDR4_ODT0_A, A1-12 DDR3_A7/DDR4_A11/LPDDR3_A7/LPDDR4_A2_A, A2 DDR3_DQ26/DDR4_DQU2_B/LPDDR3_DQ28/LPDDR4_DQ10_B, A2-1 DDR3_RESETN/DDR4_RESETN/LPDDR4_RESETN, A2-2 DDR_RZQ, A4 DDR3_ODT0/DDR4_CSN0/LPDDR3_ODT0/LPDDR4_A2_B, A5 DDR3_CKE/DDR4_ACTN/LPDDR3_CKE/LPDDR4_A3_B, A7 DDR3_ODT1/DDR4_BG0/LPDDR3_ODT1/LPDDR4_CSN1_A, A8 DDR3_A12/DDR4_A5/LPDDR4_ODT0_B, A10 DDR3_A1/DDR4_A8/LPDDR3_A1/LPDDR4_CKE0_A, A11 DDR3_A5/DDR4_A9/LPDDR3_A5/LPDDR4_A5_A, A13 DDR3_A0/DDR4_ODT1/LPDDR3_A0/LPDDR4_ODT1_B, A14 DDR3_A14/DDR4_A14_WEN/LPDDR4_CSN1_B, AA1 DDR3_DQS2N/DDR4_DQSL_N_B/LPDDR3_DQS2N/LPDDR4_DQS0N_A, AB1 DDR3_DQS2P/DDR4_DQSL_P_B/LPDDR3_DQS2P/LPDDR4_DQS0P_A, AC2 DDR3_DQ23/DDR4_DQL7_B/LPDDR3_DQ20/LPDDR4_DQ7_A, AD1 DDR3_DQ21/DDR4_DQL5_B/LPDDR3_DQ16/LPDDR4_DQ5_A, AD2 DDR3_DQ22/DDR4_DQL6_B/LPDDR3_DQ17/LPDDR4_DQ6_A, AE1 DDR3_DQ20/DDR4_DQL4_B/LPDDR3_DQ21/LPDDR4_DQ4_A, B1 DDR3_DQ25/DDR4_DQU1_B/LPDDR3_DQ31/LPDDR4_DQ9_B, B1-2 DDR3_CLKP/DDR4_CLKP/LPDDR3_CLKP/LPDDR4_CLKP_B, B1-10 DDR3_A6/DDR4_A4/LPDDR3_A6/LPDDR4_CLKP_A, B1-12 DDR3_A9/DDR4_A2/LPDDR3_A9/LPDDR4_A4_A, B2 DDR3_DQ27/DDR4_DQU3_B/LPDDR3_DQ29/LPDDR4_DQ11_B, B4 DDR3_CASN/DDR4_CKE/LPDDR4_A1_B, B5 DDR3_CSN0/DDR4_ODT0/LPDDR3_CSN0/LPDDR4_A4_B, B7 DDR3_A11/DDR4_A16_RASN/LPDDR4_CSN0_B, B8 DDR3_BA2/DDR4_A6/LPDDR4_A0_A, B10 DDR3_BA0/DDR4_CSN1, B11 DDR3_CSN1/DDR4_BA0/LPDDR3_CSN1/LPDDR4_CSN0_A, B13 DDR3_A3/DDR4_A0/LPDDR3_A3/LPDDR4_CKE1_A, B14 DDR3_A13/DDR4_A13/LPDDR4_A3_A, C1 DDR3_DQ24/DDR4_DQU0_B/LPDDR3_DQ30/LPDDR4_DQ8_B, C1-4 DDR3_RASN/DDR4_A12/LPDDR4_A1_A, C1-6 DDR3_WEN/DDR4_BA1/LPDDR4_CKE1_B, C1-8 DDR3_BA1/DDR4_A1/LPDDR4_CKE0_B, C1-10 DDR3_A8/DDR4_A10/LPDDR3_A8/LPDDR4_CLKN_A, C1-12 DDR3_A2/DDR4_BG1/LPDDR3_A2/LPDDR4_ODT1_A, C2-3 DDR_VDDQ_0, C2-4 DDR_VDDQ_1, C2-5 DDR_VDDQ_2, D1-1 DDR3_DQS3P/DDR4_DQSU_P_B/LPDDR3_DQS3P/LPDDR4_DQS1P_B, D1-2 DDR3_DQS3N/DDR4_DQSU_N_B/LPDDR3_DQS3N/LPDDR4_DQS1N_B, D2 DDR3_DM3/DDR4_DMU_B/LPDDR3_DM3/LPDDR4_DM1_B, D2-3 DDR_VDDQ_3, E2 DDR3_DQ31/DDR4_DQU7_B/LPDDR3_DQ27/LPDDR4_DQ15_B, E2-3 DDR_VDDQ_4, E2-4 DDR_VDDQL_0, F1 DDR3_DQ29/DDR4_DQU5_B/LPDDR3_DQ25/LPDDR4_DQ13_B, F1-1 DDR3_DQS1P/DDR4_DQSU_P_A/LPDDR3_DQS1P/LPDDR4_DQS0P_B, F1-2 DDR3_DQS1N/DDR4_DQSU_N_A/LPDDR3_DQS1N/LPDDR4_DQS0N_B, F2 DDR3_DQ30/DDR4_DQU6_B/LPDDR3_DQ26/LPDDR4_DQ14_B, F2-3 DDR_VDDQ_5, F2-4 DDR_VDDQL_1, G1 DDR3_DQ28/DDR4_DQU4_B/LPDDR3_DQ24/LPDDR4_DQ12_B, H1-1 DDR3_DQ3/DDR4_DQL3_A/LPDDR3_DQ0/LPDDR4_DQ11_A, H1-3 DDR3_DQ6/DDR4_DQL6_A/LPDDR3_DQ5/LPDDR4_DQ14_A, H2 DDR3_DQ12/DDR4_DQU4_A/LPDDR3_DQ12/LPDDR4_DQ4_B, J1 DDR3_DQ14/DDR4_DQU6_A/LPDDR3_DQ14/LPDDR4_DQ6_B, J2 DDR3_DQ13/DDR4_DQU5_A/LPDDR3_DQ13/LPDDR4_DQ5_B, J2-1 DDR_VREFOUT, K1 DDR3_DQ15/DDR4_DQU7_A/LPDDR3_DQ15/LPDDR4_DQ7_B, K1-1 DDR3_DQS0P/DDR4_DQSL_P_A/LPDDR3_DQS0P/LPDDR4_DQS1P_A, K1-2 DDR3_DQS0N/DDR4_DQSL_N_A/LPDDR3_DQS0N/LPDDR4_DQS1N_A, K2 DDR3_DM1/DDR4_DMU_A/LPDDR3_DM1/LPDDR4_DM0_B, M1 DDR3_DQ9/DDR4_DQU1_A/LPDDR3_DQ11/LPDDR4_DQ1_B, M1-1 DDR3_DM0/DDR4_DML_A/LPDDR3_DM0/LPDDR4_DM1_A, M1-3 DDR3_DQ1/DDR4_DQL1_A/LPDDR3_DQ6/LPDDR4_DQ9_A, M2 DDR3_DQ8/DDR4_DQU0_A/LPDDR3_DQ10/LPDDR4_DQ0_B, N1 DDR3_DQ10/DDR4_DQU2_A/LPDDR3_DQ8/LPDDR4_DQ2_B, N2 DDR3_DQ11/DDR4_DQU3_A/LPDDR3_DQ9/LPDDR4_DQ3_B, P1-1 DDR3_DQ7/DDR4_DQL7_A/LPDDR3_DQ1/LPDDR4_DQ15_A, R1 DDR3_DQ0/DDR4_DQL0_A/LPDDR3_DQ2/LPDDR4_DQ8_A, R2 DDR3_DQ2/DDR4_DQL2_A/LPDDR3_DQ4/LPDDR4_DQ10_A, T1 DDR3_DQ5/DDR4_DQL5_A/LPDDR3_DQ7/LPDDR4_DQ13_A, T2 DDR3_DQ4/DDR4_DQL4_A/LPDDR3_DQ3/LPDDR4_DQ12_A, V1 DDR3_DQ18/DDR4_DQL2_B/LPDDR3_DQ23/LPDDR4_DQ2_A, V2 DDR3_DQ19/DDR4_DQL3_B/LPDDR3_DQ22/LPDDR4_DQ3_A, W1 DDR3_DQ17/DDR4_DQL1_B/LPDDR3_DQ18/LPDDR4_DQ1_A, W2 DDR3_DM2/DDR4_DML_B/LPDDR3_DM2/LPDDR4_DM0_A, Y2 DDR3_DQ16/DDR4_DQL0_B/LPDDR3_DQ19/LPDDR4_DQ0_A
part E pins: C2-13 OTP_VCC_1V8, D2-6 NPU_DVDD_0, D2-7 NPU_DVDD_1, D2-8 NPU_DVDD_2, E2-5 LOGIC_DVDD_0, E2-6 NPU_DVDD_3, E2-7 NPU_DVDD_4, E2-8 NPU_DVDD_5, E2-10 LOGIC_DVDD_3, F2-5 LOGIC_DVDD_1, F2-10 LOGIC_DVDD_4, G2-5 LOGIC_DVDD_2, G2-10 LOGIC_DVDD_5, H2-4 LOGIC_DVDD_6, H2-6 CPU_DVDD_1, H2-7 CPU_DVDD_2, H2-8 CPU_DVDD_3, J2-6 CPU_DVDD_4, J2-7 CPU_DVDD_5, J2-8 CPU_DVDD_6, J2-9 CPU_DVDD_0, M2-3 RTC_AVDD
part F pins: A1 VSS_0, A1-10 VSS_31, A2-3 VSS_50, A2-4 VSS_51, A2-5 VSS_52, A2-6 VSS_53, A2-7 VSS_54, A2-8 VSS_55, A2-9 VSS_56, A2-13 AVSS1_4, A19 VSS_1, A32 AVSS1_0, AA2 VSS_18, AB2 VSS_19, AD31 VSS_20, AE2 VSS_21, AH31 VSS_22, AK31 VSS_23, AL5 VSS_24, AL8 VSS_25, AL16 AVSS3_0, AL19 VSS_26, AL26 VSS_27, AM1 VSS_28, AM14 VSS_29, AM32 VSS_30, B1-4 VSS_32, B1-6 VSS_33, B1-8 VSS_34, B2-1 VSS_57, B2-2 VSS_58, B2-3 VSS_59, B2-4 VSS_60, B2-5 VSS_61, B2-6 VSS_62, B2-7 VSS_63, B2-13 AVSS1_5, B3 VSS_2, B6 VSS_3, B9 VSS_4, B12 VSS_5, B15 VSS_6, B23 VSS_7, B26 AVSS1_1, C1-2 VSS_35, C1-14 VSS_36, C1-20 AVSS1_3, C2 VSS_8, C2-1 VSS_64, C2-2 VSS_65, C2-6 VSS_66, C2-7 VSS_67, C2-8 VSS_68, C2-9 VSS_69, C2-10 VSS_70, C31 AVSS1_2, D1 VSS_9, D1-3 VSS_37, D2-1 VSS_71, D2-2 VSS_72, D2-4 VSS_73, D2-5 VSS_74, D2-9 VSS_75, D2-10 VSS_76, D2-11 VSS_77, D2-12 VSS_78, E2-1 VSS_79, E2-2 VSS_80, E2-9 VSS_81, E2-11 VSS_82, F1-3 VSS_38, F1-21 VSS_39, F2-1 VSS_83, F2-2 VSS_84, F2-6 VSS_85, F2-7 VSS_86, F2-8 VSS_87, F2-9 VSS_88, F2-11 VSS_89, F2-13 VSS_90, G2 VSS_10, G2-1 VSS_91, G2-2 VSS_92, G2-3 VSS_93, G2-4 VSS_94, G2-6 VSS_95, G2-7 VSS_96, G2-8 VSS_97, G2-9 VSS_98, G2-11 VSS_99, G2-13 VSS_100, H1-2 VSS_40, H2-1 VSS_101, H2-2 VSS_102, H2-3 VSS_103, H2-5 VSS_104, H2-9 VSS_105, H2-10 VSS_106, H2-11 VSS_107, H2-13 VSS_108, H31 VSS_11, J2-3 VSS_109, J2-5 VSS_110, J2-10 VSS_111, J2-11 VSS_112, J2-13 VSS_113, K1-3 VSS_41, K1-22 VSS_42, K2-1 VSS_114, K2-3 VSS_115, K2-6 VSS_116, K2-7 VSS_117, K2-8 VSS_118, K2-9 VSS_119, K2-10 VSS_120, K2-13 VSS_121, L2 VSS_12, L2-1 VSS_122, L2-7 AVSS3_1, L2-8 VSS_123, L2-13 VSS_124, M1-2 VSS_43, M2-4 VSS_125, M2-8 VSS_126, M2-9 VSS_127, M2-10 VSS_128, M2-11 VSS_129, M2-12 VSS_130, M2-13 VSS_131, M31 VSS_13, N2-1 VSS_132, N2-2 VSS_133, N2-3 VSS_134, N2-4 VSS_135, N2-5 VSS_136, N2-6 VSS_137, N2-9 VSS_138, N2-10 VSS_139, N2-11 VSS_140, N2-12 VSS_141, N2-13 VSS_142, P1-2 VSS_44, P2 VSS_14, T31 VSS_15, U2 VSS_16, V1-23 VSS_45, Y1-1 VSS_46, Y1-2 VSS_47, Y1-3 VSS_48, Y1-22 VSS_49, Y31 VSS_17
part G pins: AA1-8 I2C2_SCL_M0/PWM0_CH4_M0/GPIO0_D0, AA1-10 SPI2AHB_D2/PWM0_CH1_M0/UART1_RX_M0/I2C5_SDA_M0/GPIO0_C5, AA1-12 SPI2AHB_CSN0/I2C0_SCL_M0/GPIO0_C2, AB1-6 PWR_CTRL1/GPIO0_A4, AB1-8 SPI2AHB_D0/PWM0_CH3_M0/UART1_CTSN_M0/GPIO0_C7, AB1-10 SPI2AHB_D1/PWM0_CH2_M0/UART1_RTSN_M0/GPIO0_C6, AB1-12 SPI2AHB_CLK/I2C0_SDA_M0/GPIO0_C3, AC1-6 I2C2_SDA_M0/PWM0_CH5_M0/GPIO0_D1, AC1-8 SPI2AHB_D3/PWM0_CH0_M0/UART1_TX_M0/I2C5_SCL_M0/GPIO0_C4, AC1-10 I2C3_SDA_M0/PWM0_CH6_M0/PWR_CTRL2/GPIO0_C1, AC1-12 I2C3_SCL_M0/PWM0_CH7_M0/GPIO0_C0, AL9 UART0_RX_M2/PWM1_CH3_M0/I2C1_SDA_M0/JTAG_TMS_M0/GPIO0_B4, AL10 SDMMC0_DETN/PWM1_CH0_M0/GPIO0_A5, AL11 FSPI1_D3_M0/PWM1_CH1_M0/TSADC_SHUT/TSADC_SHUTORG/GPIO0_A1, AL13 NPOR_DET, AL14 OSC_XOUT, AL15 OSC_XIN, AM10 UART0_TX_M2/PWM1_CH2_M0/I2C1_SCL_M0/JTAG_TCK_M0/GPIO0_B3, J2-4 PLL_AVDD_1V8, K2-4 PLL_AVDD_0V9, K2-5 PMUIO_VDD0V9/OSC_VDD_0V9, L2-4 PMUIO0_VCC3V3, L2-5 PMUIO0_LDO3V3, M2-5 PMUIO1_VCC
part H pins: AF2 EMMC_CLK/FSPI1_CLK_M1/GPIO1_B3, AG1 EMMC_CMD/FSPI1_CSN0_M1/GPIO1_B1, AG2 FSPI0_CLK/GPIO1_B7, AH1 EMMC_D7/PWM3_CH7_M0/GPIO1_A7, AH2 EMMC_D6/PWM3_CH6_M0/GPIO1_A6, AJ2 EMMC_D5/FSPI0_CSN1/PWM3_CH5_M0/GPIO1_A5, AK1 EMMC_D4/PWM3_CH4_M0/GPIO1_A4, AK2 EMMC_D3/FSPI1_D3_M1/PWM3_CH3_M0/GPIO1_A3, AL1 EMMC_D0/FSPI1_D0_M1/PWM3_CH0_M0/GPIO1_A0, J2-2 VCCIO1_VCC, P1-3 FSPI0_D1/SAI1_SCLK_M0/GPIO1_B5, T1-1 FSPI0_D3/SAI1_SDI_M0/GPIO1_B6, T1-2 FSPI0_D0/SAI1_LRCK_M0/GPIO1_B4, T1-3 FSPI0_D2/SAI1_SDO_M0/GPIO1_B2, V1-1 FSPI0_CSN0/SAI1_MCLK_M0/GPIO1_B0, V1-2 EMMC_D2/FSPI1_D2_M1/PWM3_CH2_M0/GPIO1_A2, V1-3 EMMC_D1/FSPI1_D1_M1/PWM3_CH1_M0/GPIO1_A1
part I pins: AA1-18 SDMMC0_D3/UART3_TX_M0/UART4_CTSN_M3/JTAG_TMS_M1/GPIO2_A3, AA1-20 SDMMC0_D1/UART0_TX_M0/I2C0_SCL_M1/GPIO2_A1, AB1-18 SDMMC0_D2/UART3_RX_M0/UART4_RTSN_M3/JTAG_TCK_M1/TEST_CLK1_OUT/GPIO2_A2, AB1-20 SDMMC0_D0/UART0_RX_M0/I2C0_SDA_M1/GPIO2_A0, AC1-18 SDMMC0_CMD/UART3_CTSN_M0/UART4_TX_M3/GPIO2_A5, AC1-20 SDMMC0_CLK/UART3_RTSN_M0/UART4_RX_M3/GPIO2_A4, L2-10 VCCIO2_VCC
part J pins: A1-14 SPI1_CLK_M1/SAI2_SCLK_M0/PWM2_CH2_M0/UART1_RTSN_M1/I2C4_SCL_M0/FEPHY_LEDLINK_M0/GPIO3_B4, A1-16 SPI1_CSN0_M1/SAI2_LRCK_M0/PWM2_CH3_M0/UART1_CTSN_M1/I2C4_SDA_M0/FEPHY_LEDSPD_M0/GPIO3_B5, A16 SAI2_SDI1_M0/UART1_RX_M1/I2C5_SDA_M1/GPIO3_B7, A17 SAI2_SDI2_M0/UART2_TX_M0/GPIO3_B1, A20 SDMMC1_D2/GPIO3_A4, A22 SDMMC1_D0/I2C1_SCL_M1/GPIO3_A2, A23 SDMMC1_D1/I2C1_SDA_M1/GPIO3_A3, B1-14 SPI1_MISO_M1/SAI2_SDI0_M0/PWM2_CH1_M0/PRELIGHT_TRIG_OUT/GPIO3_B3, B1-16 SPI1_MOSI_M1/SAI2_SDO_M0/PWM2_CH0_M0/FLASH_TRIG_OUT/GPIO3_B2, B2-8 VCCIO3_VCC, B16 SPI1_CSN1_M1/SAI2_MCLK_M0/SDMMC1_DETN/UART1_TX_M1/I2C5_SCL_M1/GPIO3_B6, B17 UART2_RX_M0/GPIO3_B0, B18 UART2_CTSN_M0/GPIO3_A7, B19 UART2_RTSN_M0/GPIO3_A6, B20 SDMMC1_D3/GPIO3_A5, B21 SDMMC1_CMD/GPIO3_A1, B22 SDMMC1_CLK/GPIO3_A0
part K pins: AA1-2 USB_DRD_VBUSDET, AB1-2 USB_DRD_ID, AL2 USB_DRD_DP, AL3 USB_HOST_DM, AL4 USB_HOST_DP, AL6 USB_DRD_SSRXP, AL7 USB_DRD_SSRXN, AM2 USB_DRD_DM, AM4 USB_DRD_SSTXP, AM5 USB_DRD_SSTXN, K2-2 USB_AVDD_3V3, L2-2 USB_AVDD_1V8_0, L2-3 USB_AVDD_1V8_1, M2-1 USB_AVDD_0V9_0, M2-2 USB_AVDD_0V9_1
part L pins: A1-18 SARADC0_IN2, A1-20 SARADC0_IN7_BOOT, A2-10 SARADC0_IN6, B1-18 SARADC0_IN3, B1-20 SARADC0_IN0, B2-9 SARADC0_AVDD_1V8, B2-11 SARADC0_IN4, C1-16 SARADC0_IN5, C1-18 SARADC0_IN1
part M pins: AA31 SARADC1_IN5/VI_CIF_D5_M0/ETH_TXD2_M0/PWM2_CH1_M2/UART5_CTSN_M2/I2C5_SDA_M3/GPIO6_A5, AA32 SARADC1_IN6/VI_CIF_D6_M0/ETH_TXD3_M0/PWM2_CH2_M2/UART4_RTSN_M2/GPIO6_A6, AB31 SARADC1_IN4/VI_CIF_D4_M0/ETH_RXD3_M0/SAI0_MCLK_M1/PWM2_CH0_M2/UART5_RTSN_M2/I2C5_SCL_M3/GPIO6_A4, AC31 SARADC1_IN3/VI_CIF_D3_M0/ETH_RXD2_M0/CAN1_TXD_M1/SAI0_SDI0_M1/PWM1_CH3_M2/UART5_RX_M2/I2C4_SDA_M1/GPIO6_A3, AC32 SARADC1_IN2/VI_CIF_D2_M0/ETH_PPSCLK_M0/CAN1_RXD_M1/SAI0_SDO0_M1/PWM1_CH2_M2/UART5_TX_M2/I2C4_SCL_M1/GPIO6_A2, AD32 SARADC1_IN1/VI_CIF_D1_M0/ETH_PTP_REFCLK_M0/CAN0_TXD_M1/SAI0_LRCK_M1/PWM1_CH1_M2/UART4_RX_M2/I2C3_SDA_M3/GPIO6_A1, G2-12 VCCIO6_VCC, H2-12 TSADC_AVDD_1V8/SARADC1&2_AVDD_1V8, K1-21 SARADC2_IN3/VI_CIF_D15_M0/ETH_MDIO_M0/PDM_CLK1_M1/UART7_CTSN_M1/GPIO6_B7, M1-21 VI_CIF_D12_M0/ETH_MCLK_M0/SPI1_CLK_M0/PDM_CLK0_M1/UART7_TX_M1/GPIO6_B4, M1-22 SARADC2_IN1/VI_CIF_D13_M0/ETH_RXCTL_M0/PDM_SDI0_M1/UART7_RX_M1/GPIO6_B5, M1-23 SARADC2_IN2/VI_CIF_D14_M0/PDM_SDI1_M1/UART7_RTSN_M1/GPIO6_B6, P1-21 VI_CIF_D9_M0/ETH_TXCTL_M0/SPI1_CSN0_M0/SAI0_SDI1_M1/SAI0_SDO3_M1/UART6_RX_M1/GPIO6_B1, P1-22 VI_CIF_D10_M0/ETH_RXD0_M0/SPI1_MOSI_M0/PDM_SDI2_M1/UART6_RTSN_M1/GPIO6_B2, P1-23 VI_CIF_D11_M0/ETH_RXD1_M0/SPI1_MISO_M0/PDM_SDI3_M1/UART6_CTSN_M1/GPIO6_B3, T1-23 SARADC1_IN0/VI_CIF_D0_M0/ETH_PPSTRIG_M0/CAN0_RXD_M1/SAI0_SCLK_M1/PWM1_CH0_M2/UART4_TX_M2/I2C3_SCL_M3/GPIO6_A0, U31 SARADC2_IN6/VI_CIF_CLKOUT_M0/ETH_TXCLK_M0/FEPHY_LEDLINK_M2/PWM0_CH2_M2/UART3_TX_M2/GPIO6_C2, U32 SARADC2_IN5/VI_CIF_CLKIN_M0/ETH_CLK_25M_OUT_M0/PWM0_CH1_M2/UART3_CTSN_M2/GPIO6_C1, V31 SARADC2_IN7/VI_CIF_HSYNC_M0/ETH_RXCLK_M0/FEPHY_LEDSPD_M2/PWM0_CH3_M2/UART3_RX_M2/I2C2_SDA_M2/GPIO6_C3, V32 SARADC2_IN4/VI_CIF_VSYNC_M0/ETH_MDC_M0/PWM0_CH0_M2/UART3_RTSN_M2/I2C2_SCL_M2/GPIO6_C0, W31 SARADC2_IN0/VI_CIF_D8_M0/ETH_TXD1_M0/SPI1_CSN1_M0/SAI0_SDI2_M1/SAI0_SDO2_M1/UART6_TX_M1/GPIO6_B0, Y32 SARADC1_IN7/VI_CIF_D7_M0/ETH_TXD0_M0/PWM2_CH3_M2/SAI0_SDI3_M1/SAI0_SDO1_M1/UART4_CTSN_M2/GPIO6_A7
part N pins: AJ31 MIPI_DPHY_CSI_RX1_D0N, AJ32 MIPI_DPHY_CSI_RX1_D0P, AK32 MIPI_DPHY_CSI_RX1_D1N, AL20 MIPI_DPHY_CSI_RX0_D3P, AL21 MIPI_DPHY_CSI_RX0_D3N, AL22 MIPI_DPHY_CSI_RX0_CLK1P, AL23 MIPI_DPHY_CSI_RX0_CLK0N, AL24 MIPI_DPHY_CSI_RX0_D1P, AL25 MIPI_DPHY_CSI_RX0_D1N, AL27 MIPI_DPHY_CSI_RX1_D2P, AL28 MIPI_DPHY_CSI_RX1_D2N, AL29 MIPI_DPHY_CSI_RX1_CLK1P, AL30 MIPI_DPHY_CSI_RX1_CLK1N, AL31 MIPI_DPHY_CSI_RX1_CLK0P, AL32 MIPI_DPHY_CSI_RX1_D1P, AM19 MIPI_DPHY_CSI_RX0_D2P, AM20 MIPI_DPHY_CSI_RX0_D2N, AM22 MIPI_DPHY_CSI_RX0_CLK1N, AM23 MIPI_DPHY_CSI_RX0_CLK0P, AM25 MIPI_DPHY_CSI_RX0_D0P, AM26 MIPI_DPHY_CSI_RX0_D0N, AM28 MIPI_DPHY_CSI_RX1_D3P, AM29 MIPI_DPHY_CSI_RX1_D3N, AM31 MIPI_DPHY_CSI_RX1_CLK0N, K2-11 MIPI_DPHY_CSI_RX1_AVDD_1V8, K2-12 MIPI_DPHY_CSI_RX1_AVDD_0V9, L2-11 MIPI_DPHY_CSI_RX0_AVDD_1V8, L2-12 MIPI_DPHY_CSI_RX0_AVDD_0V9
part O pins: A28 MIPI_DPHY_DSI_TX_D1N, A29 MIPI_DPHY_DSI_TX_D1P, A31 MIPI_DPHY_DSI_TX_D2P, B2-12 MIPI_DSI_TX0_AVDD_0V9, B27 MIPI_DPHY_DSI_TX_D0N, B28 MIPI_DPHY_DSI_TX_D0P, B29 MIPI_DPHY_DSI_TX_CLKN, B30 MIPI_DPHY_DSI_TX_CLKP, B31 MIPI_DPHY_DSI_TX_D2N, B32 MIPI_DPHY_DSI_TX_D3N, C2-12 MIPI_DSI_TX0_AVDD_1V8, C32 MIPI_DPHY_DSI_TX_D3P
part P pins: AE31 CAM_CLK0_OUT/UART5_CTSN_M0/GPIO4_B1, AF31 CAM_CLK1_OUT/UART5_RTSN_M0/GPIO4_B0, AF32 SPI0_MISO_M1/SAI1_LRCK_M1/I2C3_SDA_M1/GPIO4_A5, AG31 CAM_CLK3_OUT/UART4_RTSN_M0/I2C1_SDA_M2/GPIO4_A0, AG32 CAM_CLK2_OUT/UART4_CTSN_M0/I2C1_SCL_M2/GPIO4_A1, J2-12 VCCIO4_VCC, T1-21 SPI0_CSN0_M1/SAI1_SDI_M1/PWM0_CH6_M1/UART5_TX_M0/I2C4_SDA_M2/GPIO4_A6, T1-22 SPI0_CLK_M1/SAI1_SDO_M1/PWM0_CH7_M1/UART5_RX_M0/I2C4_SCL_M2/GPIO4_A7, V1-21 SPI0_CSN1_M1/SAI1_MCLK_M1/PWM0_CH5_M1/UART4_TX_M0/GPIO4_A3, V1-22 SPI0_MOSI_M1/SAI1_SCLK_M1/I2C3_SCL_M1/GPIO4_A4, Y1-23 PWM0_CH4_M1/UART4_RX_M0/GPIO4_A2
part Q pins: A2-11 FEPHY_REXT, A2-12 FEPHY_AVDD_0V9, A25 FEPHY_TXN, A26 FEPHY_TXP, B2-10 FEPHY_AVDD_3V3, B24 FEPHY_RXN, B25 FEPHY_RXP, C2-11 FEPHY_AVDD_1V8
part R pins: AL17 AUDIO_ADC1_MICP, AL18 AUDIO_ADC1_MICN, AM16 AUDIO_ADC0_MICP, AM17 AUDIO_ADC0_MICN, L2-6 AUDIO_ADC1_VCM, M2-6 AUDIO_ADC0_VCM, M2-7 AUDIO_ADC0_VREF, N2-7 AUDIO_ADC_AVDD1V8, N2-8 AUDIO_ADC1_VREF
part D text: CHANNEL A; CHANNEL B; Clock Enable; Chip Select; Clock; Data Strobe; Common Address; Data Mask; Data Input/Output
part E text: NPU/LOGIC/VEPU/ARM
part G text: OSC/PLL; PMUIO0 Domain; PMUIO1 Domain
part H text: I2S1/FSPI/EMMC
part I text: SDMMC0/UART/JTAG
part J text: SDMMC1 / UART / SAI2
part K text: USB 2.0; USB 3.0
part L text: SARADC0
part M text: CIF/RGMII/I2S/PDM/UART/SPI/I2C
part N text: MIPI CSI RX0; MIPI CSI RX1
part O text: MIPI DSI
part P text: SPI/I2C/I2S/UART/CAM CLK

## IND_1uH-4A-20%-1008
designator L?, comment APH252012C1R0MP01
FIXED IND 01uH 4A 35mΩ SMD,2x2.5mm; Manufacturer: Murata Electronics; Manufacturer Part Number: DFE252010P-R47M=P2; Case/Package: 1008; Supplier-1: Digikey; ComponentLink1Description: LCSC; ComponentLink1URL: https://www.lcsc.com/product-detail/C42455356.html?s_z=n_q_APH252012C1R0MP01&spm=wm.fly.bg.0.xh&lcsc_vid=EwRWBFZSQVIPVFdUTlJfVldeFFRYUFQAElRYBFRRE1MxVlNeRVlXUldWQ1ddVDsOAxUeFF5JWBYZEEoKFBINSQcJGk4NBhADEA4cHktXR1NXSQwSGg0%3D
footprint IND_1008 (Inductor)
pins: 1, 2

## IND_2.2uH-4.1A-20%-1008
designator L?, comment PSTMAA252012-2R2MB
2.2uH Shielded Wirewound Inductor 4.1A 60mOhm Max 1008 (2520 Metric); Manufacturer: Murata Electronics; Manufacturer Part Number: DFE252010P-R47M=P2; Case/Package: 1008; Supplier-1: Digikey
footprint IND_1008 (Inductor)
pins: 1, 2

## IND_470nH-6.5A-20%-1008
designator L?, comment FTC252012SR47MBCA
FIXED IND 0.47uH 6.5A 13mΩ SMD,2x2.5mm; Manufacturer: Murata Electronics; Manufacturer Part Number: DFE252010P-R47M=P2; Case/Package: 1008; Supplier-1: Digikey
footprint IND_1008 (Inductor)
pins: 1, 2

## JSM2302A-A2SHB
designator Q?, comment N-CHANEL  (value not drawn)
MOSFET N-CH 20V 3A SOT-23
footprint SOT-23-3_L2.9-W1.3-P1.90-LS2.4-BR
pins: 1 G, 2 S, 3 D

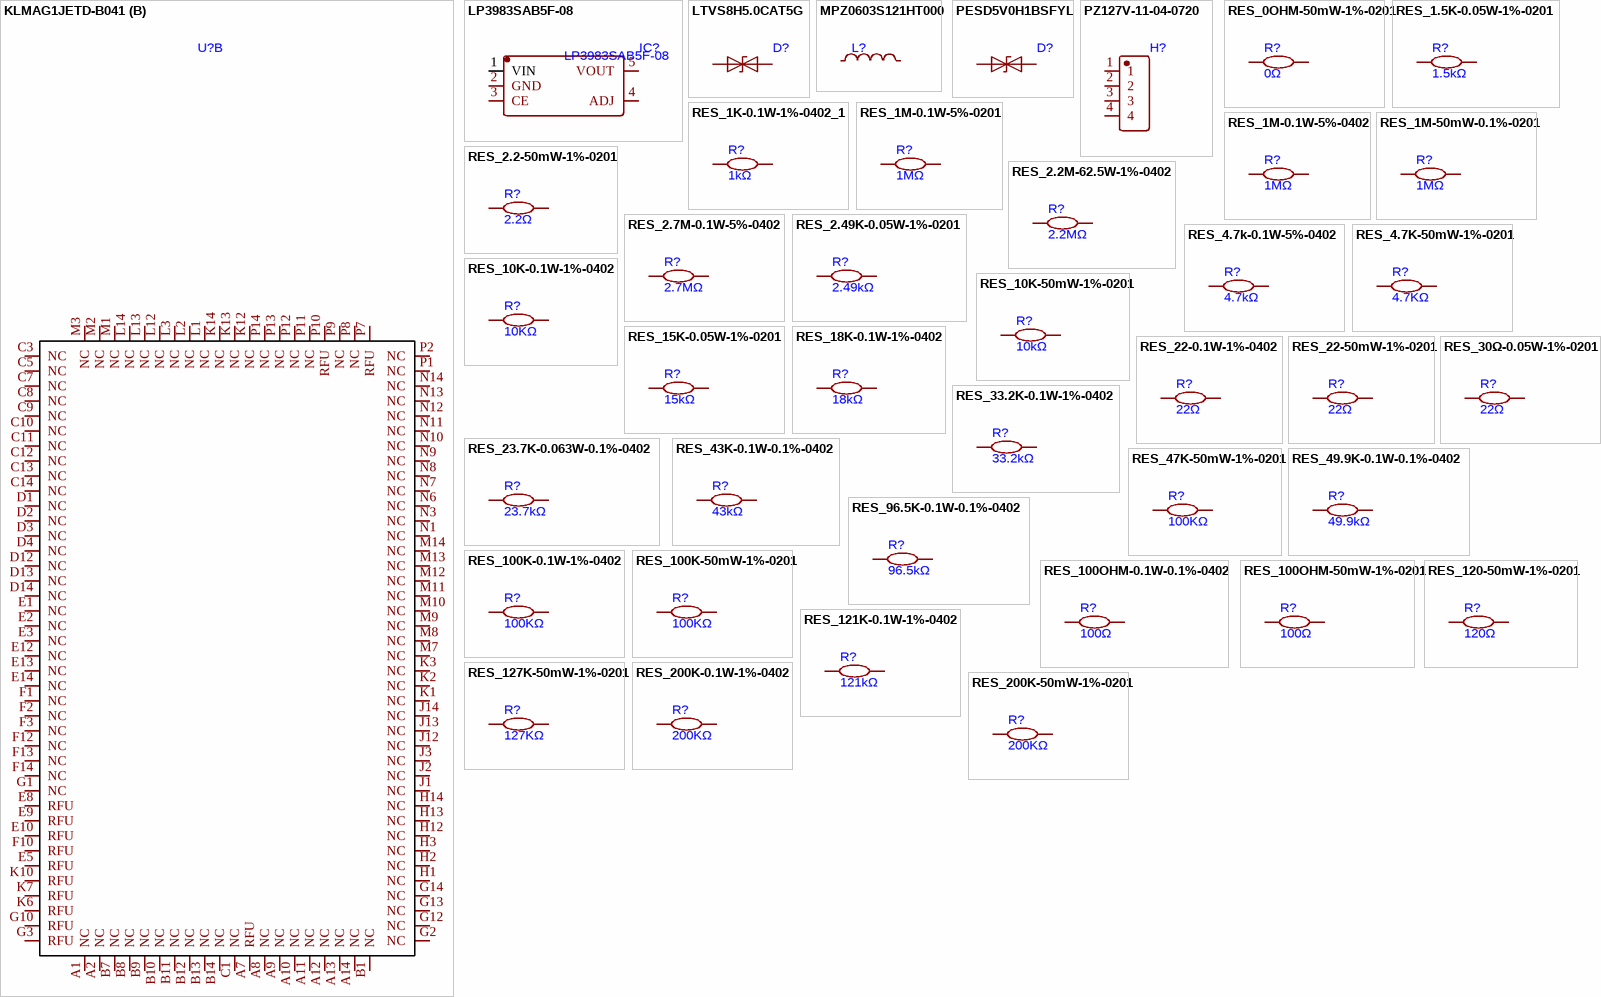
[diagram p7: symbols KLMAG1JETD-B041 to RES_200K-50mW-1%-0201]

## KLMAG1JETD-B041
designator U?, comment emmc 16gb  (value not drawn)
eMMC 5.1 Specification compatibility
footprint FBGA-153_L13.0-W11.5-P0.50_KLMAG1JETD-B041
part A pins: A3 DAT0, A4 DAT1, A5 DAT2, A6 VSS, B2 DAT3, B3 DAT4, B4 DAT5, B5 DAT6, B6 DAT7, C2 VDDI, C4 VSS, C6 VDD, E6 VDDF, E7 VSS, F5 VDDF, G5 VSS, H5 DataStrobe, H10 VSS, J5 VSS, J10 VDDF, K5 RSTN, K8 VSS, K9 VDDF, M4 VDD, M5 CMD, M6 CLK, N2 VSS, N4 VDD, N5 VSS, P3 VDD, P4 VSS, P5 VDD, P6 VSS
part B pins: A1 NC, A2 NC, A7 RFU, A8 NC, A9 NC, A10 NC, A11 NC, A12 NC, A13 NC, A14 NC, B1 NC, B7 NC, B8 NC, B9 NC, B10 NC, B11 NC, B12 NC, B13 NC, B14 NC, C1 NC, C3 NC, C5 NC, C7 NC, C8 NC, C9 NC, C10 NC, C11 NC, C12 NC, C13 NC, C14 NC, D1 NC, D2 NC, D3 NC, D4 NC, D12 NC, D13 NC, D14 NC, E1 NC, E2 NC, E3 NC, E5 RFU, E8 RFU, E9 RFU, E10 RFU, E12 NC, E13 NC, E14 NC, F1 NC, F2 NC, F3 NC, F10 RFU, F12 NC, F13 NC, F14 NC, G1 NC, G2 NC, G3 RFU, G10 RFU, G12 NC, G13 NC, G14 NC, H1 NC, H2 NC, H3 NC, H12 NC, H13 NC, H14 NC, J1 NC, J2 NC, J3 NC, J12 NC, J13 NC, J14 NC, K1 NC, K2 NC, K3 NC, K6 RFU, K7 RFU, K10 RFU, K12 NC, K13 NC, K14 NC, L1 NC, L2 NC, L3 NC, L12 NC, L13 NC, L14 NC, M1 NC, M2 NC, M3 NC, M7 NC, M8 NC, M9 NC, M10 NC, M11 NC, M12 NC, M13 NC, M14 NC, N1 NC, N3 NC, N6 NC, N7 NC, N8 NC, N9 NC, N10 NC, N11 NC, N12 NC, N13 NC, N14 NC, P1 NC, P2 NC, P7 RFU, P8 NC, P9 NC, P10 RFU, P11 NC, P12 NC, P13 NC, P14 NC

## LP3983SAB5F-08
designator IC?
300mA, Ultra-low noise, Small Package Ultra-Fast CMOS LDO Regulator; ComponentLink1Description: LCSC; ComponentLink1URL: https://www.lcsc.com/product-detail/C324567.html?s_z=n_q_LP3983SAB5F-08&spm=wm.fly.bg.0.xh&lcsc_vid=EwRWBFZSQVIPVFdUTlJfVldeFFRYUFQAElRYBFRRE1MxVlNeRVlfX1BQRFFcUTsOAxUeFF5JWBYZEEoKFBINSQcJGk4dAgUUFAk%3D
footprint SOT-23-5_L3.0-W1.7-P0.95-LS2.8-BR
pins: 1 VIN, 2 GND, 3 CE, 4 ADJ, 5 VOUT

## LTVS8H5.0CAT5G
designator D?, comment TVS DIODE 5VWM 10VC X1-SON-2(0.6x1)  (value not drawn)
footprint X1SON-2_L1.0-W0.6-P0.65-BI-1
pins: 1 K, 2 A

## MPZ0603S121HT000
designator L?, comment FERRITE BEAD 120Ω 0201 1LN  (value not drawn)
120 Ohms @ 100MHz 1 Power Line Ferrite Bead 0201 1A 130mOhm
simulation model FB_220_ADV (Model Description)
footprint R0402 (0402)
footprint R0201
pins: 1, 2

## PESD5V0H1BSFYL
designator D?, comment ESD DIODE  (value not drawn)
ESD DIODE 5VWM 5VC DSN0603-2 0.13PF
footprint DSN0603-2_L0.7-W0.3-P0.40-BI
pins: 1 K, 2 A

## PZ127V-11-04-0720
designator H?, comment Through Hole,P=1.27mm  (value not drawn)
Through Hole -40℃~+105℃ 2P 1A 4.3mm 1x2P 1.27mm Top 1 Square Hole Through Hole,P=1.27mm Headers, Receptacles, Female Sockets RoHS
footprint HDR-TH_4P-P1.27-V-M
pins: 1, 2, 3, 4

## RES_0OHM-50mW-1%-0201
designator R?, comment 0Ω
RES 0Ω ±1% 50mW 0201; ComponentLink1Description: LCSC; ComponentLink1URL: https://www.lcsc.com/product-detail/C295718.html?s_z=n_q_t_120%2520OHM&spm=wm.fly.bg.5.xh___wm.ssy.tc.1.tz&lcsc_vid=EwRWBFZSQVIPVFdUTlJfVldeFFRYUFQAElRYBFRRE1MxVlNeRFZeU1BfTlBYVzsOAxUeFF5JWBYZEEoKFBINSQcJGk4eFQsCAgIaSgADAwAHC0slRVhcV1ZTT08GEwkK
simulation model R_Resistor_Default (Model Description)
footprint R0201
pins: 1, 2

## RES_1.5K-0.05W-1%-0201
designator R?, comment 1.5kΩ
RES 1500Ω ±1% 0.05W 0201; ComponentLink1Description: LCSC; ComponentLink1URL: https://www.lcsc.com/product-detail/C93949.html?spm=wm.fly.bg.0.xh&lcsc_vid=EwRWBFZSQVIPVFdUTlJfVldeFFRYUFQAElRYBFRRE1MxVlNeRVlXUFNQQ1RWXjsOAxUeFF5JWBYZEEoKFBINSQcJGk4eFQsCAgIaSgADAwAHC0slRlVYUFFIHxUDCw%3D%3D
simulation model R_Resistor_Default (Model Description)
footprint R0201
pins: 1, 2

## RES_1K-0.1W-1%-0402_1
designator R?, comment 1kΩ
RES 1000Ω ±1% 0.1W 0402
simulation model R_Resistor_Default (Model Description)
footprint R0402 (0402)
pins: 1, 2

## RES_1M-0.1W-5%-0201
designator R?, comment 1MΩ
RES 1MΩ ±5% 50mW 0201; ComponentLink1Description: LCSC; ComponentLink1URL: https://www.lcsc.com/product-detail/C93949.html?spm=wm.fly.bg.0.xh&lcsc_vid=EwRWBFZSQVIPVFdUTlJfVldeFFRYUFQAElRYBFRRE1MxVlNeRVlXUFNQQ1RWXjsOAxUeFF5JWBYZEEoKFBINSQcJGk4eFQsCAgIaSgADAwAHC0slRlVYUFFIHxUDCw%3D%3D
simulation model R_Resistor_Default (Model Description)
footprint R0201
pins: 1, 2

## RES_1M-0.1W-5%-0402
designator R?, comment 1MΩ
RES 1MΩ ±5% 62.5mW 0402; ComponentLink1Description: LCSC; ComponentLink1URL: https://www.lcsc.com/product-detail/C93949.html?spm=wm.fly.bg.0.xh&lcsc_vid=EwRWBFZSQVIPVFdUTlJfVldeFFRYUFQAElRYBFRRE1MxVlNeRVlXUFNQQ1RWXjsOAxUeFF5JWBYZEEoKFBINSQcJGk4eFQsCAgIaSgADAwAHC0slRlVYUFFIHxUDCw%3D%3D
simulation model R_Resistor_Default (Model Description)
footprint R0402 (0402)
pins: 1, 2

## RES_1M-50mW-0.1%-0201
designator R?, comment 1MΩ
RES 1MΩ ±0.1% 50mW 0201; ComponentLink1Description: LCSC; ComponentLink1URL: https://www.lcsc.com/product-detail/C93949.html?spm=wm.fly.bg.0.xh&lcsc_vid=EwRWBFZSQVIPVFdUTlJfVldeFFRYUFQAElRYBFRRE1MxVlNeRVlXUFNQQ1RWXjsOAxUeFF5JWBYZEEoKFBINSQcJGk4eFQsCAgIaSgADAwAHC0slRlVYUFFIHxUDCw%3D%3D
simulation model R_Resistor_Default (Model Description)
footprint R0201
pins: 1, 2

## RES_2.2-50mW-1%-0201
designator R?, comment 2.2Ω
RES 2.2Ω ±1% 50mW 0201; ComponentLink1Description: LCSC; ComponentLink1URL: https://www.lcsc.com/product-detail/C295718.html?s_z=n_q_t_120%2520OHM&spm=wm.fly.bg.5.xh___wm.ssy.tc.1.tz&lcsc_vid=EwRWBFZSQVIPVFdUTlJfVldeFFRYUFQAElRYBFRRE1MxVlNeRFZeU1BfTlBYVzsOAxUeFF5JWBYZEEoKFBINSQcJGk4eFQsCAgIaSgADAwAHC0slRVhcV1ZTT08GEwkK
simulation model R_Resistor_Default (Model Description)
footprint R0201
pins: 1, 2

## RES_2.2M-62.5W-1%-0402
designator R?, comment 2.2MΩ
RES 2.2MΩ ±1% 62.5mW 0402; ComponentLink1Description: LCSC; ComponentLink1URL: https://www.lcsc.com/product-detail/C2998080.html?spm=wm.fly.bg.0.xh&lcsc_vid=EwRWBFZSQVIPVFdUTlJfVldeFFRYUFQAElRYBFRRE1MxVlNeRVlXUFNQQ1RWXjsOAxUeFF5JWBYZEEoKFBINSQcJGk4eFQsCAgIaSgADAwAHC0slRlVYUFFIHxUDCw%3D%3D
simulation model R_Resistor_Default (Model Description)
footprint R0402 (0402)
pins: 1, 2

## RES_2.7M-0.1W-5%-0402
designator R?, comment 2.7MΩ
RES 2700000Ω ±1% 1/16W 0402; ComponentLink1Description: LCSC; ComponentLink1URL: https://www.lcsc.com/product-detail/C2770677.html?spm=wm.fly.bg.2.xh&lcsc_vid=EwRWBFZSQVIPVFdUTlJfVldeFFRYUFQAElRYBFRRE1MxVlNeRVlXUFNQQ1RWXjsOAxUeFF5JWBYZEEoKFBINSQcJGk4eFQsCAgIaSgADAwAHC0slRlVYUFFIHxUDCw%3D%3D
simulation model R_Resistor_Default (Model Description)
footprint R0402 (0402)
pins: 1, 2

## RES_2.49K-0.05W-1%-0201
designator R?, comment 2.49kΩ
RES 2.49kΩ ±1% 50mW 0201; ComponentLink1Description: LCSC; ComponentLink1URL: https://www.lcsc.com/product-detail/C320826.html?spm=wm.fly.bg.3.xh&lcsc_vid=EwRWBFZSQVIPVFdUTlJfVldeFFRYUFQAElRYBFRRE1MxVlNeRFdcXlNfT1JZVDsOAxUeFF5JWBYZEEoKFBINSQcJGk4eFQsCAgIaSgADAwAHC0slRlRbUFBVWQkaCgg%3D
simulation model R_Resistor_Default (Model Description)
footprint R0201
pins: 1, 2

## RES_4.7k-0.1W-5%-0402
designator R?, comment 4.7kΩ
RES 4700Ω ±1% 0.1W 0402; ComponentLink1Description: LCSC; ComponentLink1URL: https://www.lcsc.com/product-detail/C93949.html?spm=wm.fly.bg.0.xh&lcsc_vid=EwRWBFZSQVIPVFdUTlJfVldeFFRYUFQAElRYBFRRE1MxVlNeRVlXUFNQQ1RWXjsOAxUeFF5JWBYZEEoKFBINSQcJGk4eFQsCAgIaSgADAwAHC0slRlVYUFFIHxUDCw%3D%3D
simulation model R_Resistor_Default (Model Description)
footprint R0402 (0402)
pins: 1, 2

## RES_4.7K-50mW-1%-0201
designator R?, comment 4.7KΩ
RES 4.7kΩ ±1% 50mW 0201; ComponentLink1Description: LCSC; ComponentLink1URL: https://www.lcsc.com/product-detail/C295718.html?s_z=n_q_t_120%2520OHM&spm=wm.fly.bg.5.xh___wm.ssy.tc.1.tz&lcsc_vid=EwRWBFZSQVIPVFdUTlJfVldeFFRYUFQAElRYBFRRE1MxVlNeRFZeU1BfTlBYVzsOAxUeFF5JWBYZEEoKFBINSQcJGk4eFQsCAgIaSgADAwAHC0slRVhcV1ZTT08GEwkK
simulation model R_Resistor_Default (Model Description)
footprint R0201
pins: 1, 2

## RES_10K-0.1W-1%-0402
designator R?, comment 10KΩ
10 kOhms ±1% 0.1W, 1/10W Chip Resistor 0402 (1005 Metric) Anti-Sulfur Thin Film
simulation model R_Resistor_Default (Model Description)
footprint R0402 (0402)
pins: 1, 2

## RES_10K-50mW-1%-0201
designator R?, comment 10kΩ
RES 10KΩ ±1% 50mW 0201; ComponentLink1Description: LCSC; ComponentLink1URL: https://www.lcsc.com/product-detail/C93949.html?spm=wm.fly.bg.0.xh&lcsc_vid=EwRWBFZSQVIPVFdUTlJfVldeFFRYUFQAElRYBFRRE1MxVlNeRVlXUFNQQ1RWXjsOAxUeFF5JWBYZEEoKFBINSQcJGk4eFQsCAgIaSgADAwAHC0slRlVYUFFIHxUDCw%3D%3D
simulation model R_Resistor_Default (Model Description)
footprint R0201
pins: 1, 2

## RES_15K-0.05W-1%-0201
designator R?, comment 15kΩ
RES 15kΩ ±1% 50mW 0201
simulation model R_Resistor_Default (Model Description)
footprint R0201
pins: 1, 2

## RES_18K-0.1W-1%-0402
designator R?, comment 18kΩ
RES 18kΩ ±1% 62.5mW 04022
simulation model R_Resistor_Default (Model Description)
footprint R0402 (0402)
pins: 1, 2

## RES_22-0.1W-1%-0402
designator R?, comment 22Ω
RES 22Ω ±1% 200mW 0402; ComponentLink1Description: LCSC; ComponentLink1URL: https://www.lcsc.com/product-detail/C852503.html?s_z=n_q_t_121K&spm=wm.fly.bg.6.xh___wm.ssy.tc.0.tz&lcsc_vid=EwRWBFZSQVIPVFdUTlJfVldeFFRYUFQAElRYBFRRE1MxVlNeRVlXVlJRRFhXVjsOAxUeFF5JWBYZEEoKFBINSQcJGk4dAgUUFAk%3D
simulation model R_Resistor_Default (Model Description)
footprint R0402 (0402)
pins: 1, 2

## RES_22-50mW-1%-0201
designator R?, comment 22Ω
RES 22Ω ±1% 50mW 0201; ComponentLink1Description: LCSC; ComponentLink1URL: https://www.lcsc.com/product-detail/C295718.html?s_z=n_q_t_120%2520OHM&spm=wm.fly.bg.5.xh___wm.ssy.tc.1.tz&lcsc_vid=EwRWBFZSQVIPVFdUTlJfVldeFFRYUFQAElRYBFRRE1MxVlNeRFZeU1BfTlBYVzsOAxUeFF5JWBYZEEoKFBINSQcJGk4eFQsCAgIaSgADAwAHC0slRVhcV1ZTT08GEwkK
simulation model R_Resistor_Default (Model Description)
footprint R0201
pins: 1, 2

## RES_23.7K-0.063W-0.1%-0402
designator R?, comment 23.7kΩ
RES 23700Ω ±0.1% 0.063W 0402; ComponentLink1Description: LCSC; ComponentLink1URL: https://www.lcsc.com/product-detail/C2076022.html?s_z=n_q_t_23.7K&spm=wm.fly.bg.0.xh___wm.ssy.tc.0.tz&lcsc_vid=EwRWBFZSQVIPVFdUTlJfVldeFFRYUFQAElRYBFRRE1MxVlNeRFdWV1xeQVRYUzsOAxUeFF5JWBYZEEoKFBINSQcJGk4NBhADEA4cHktXR1NXSQwSGg0%3D
simulation model R_Resistor_Default (Model Description)
footprint R0402 (0402)
pins: 1, 2

## RES_30Ω-0.05W-1%-0201
designator R?, comment 22Ω
RES 30Ω ±1% 50mW 0201; ComponentLink1Description: LCSC; ComponentLink1URL: https://www.lcsc.com/product-detail/C320826.html?spm=wm.fly.bg.3.xh&lcsc_vid=EwRWBFZSQVIPVFdUTlJfVldeFFRYUFQAElRYBFRRE1MxVlNeRFdcXlNfT1JZVDsOAxUeFF5JWBYZEEoKFBINSQcJGk4eFQsCAgIaSgADAwAHC0slRlRbUFBVWQkaCgg%3D
simulation model R_Resistor_Default (Model Description)
footprint R0201
pins: 1, 2

## RES_33.2K-0.1W-1%-0402
designator R?, comment 33.2kΩ
RES 33.2kΩ ±1% 62.5mW 0402
simulation model R_Resistor_Default (Model Description)
footprint R0402 (0402)
pins: 1, 2

## RES_43K-0.1W-0.1%-0402
designator R?, comment 43kΩ
RES 43kΩ ±0.1% 62.5mW 0402
simulation model R_Resistor_Default (Model Description)
footprint R0402 (0402)
pins: 1, 2

## RES_47K-50mW-1%-0201
designator R?, comment 100KΩ
47kΩ 50mW 25V Thick Film Resistor ±1% ±200ppm/℃ 0201 Chip Resistor - Surface Mount RoHS; ComponentLink1Description: LCSC; ComponentLink1URL: https://www.lcsc.com/product-detail/C295718.html?s_z=n_q_t_120%2520OHM&spm=wm.fly.bg.5.xh___wm.ssy.tc.1.tz&lcsc_vid=EwRWBFZSQVIPVFdUTlJfVldeFFRYUFQAElRYBFRRE1MxVlNeRFZeU1BfTlBYVzsOAxUeFF5JWBYZEEoKFBINSQcJGk4eFQsCAgIaSgADAwAHC0slRVhcV1ZTT08GEwkK
simulation model R_Resistor_Default (Model Description)
footprint R0201
pins: 1, 2

## RES_49.9K-0.1W-0.1%-0402
designator R?, comment 49.9kΩ
RES 49.9kΩ ±0.1% 62.5mW 0402; ComponentLink1Description: LCSC; ComponentLink1URL: https://www.lcsc.com/product-detail/C852808.html?spm=wm.fly.bg.1.xh&lcsc_vid=EwRWBFZSQVIPVFdUTlJfVldeFFRYUFQAElRYBFRRE1MxVlNeRFdZVVFWTlNbVTsOAxUeFF5JWBYZEEoKFBINSQcJGk4eFQsCAgIaSgADAwAHC0slT1RcXlJUWQkaCgg%3D
simulation model R_Resistor_Default (Model Description)
footprint R0402 (0402)
pins: 1, 2

## RES_96.5K-0.1W-0.1%-0402
designator R?, comment 96.5kΩ
RES 96.5kΩ ±0.1% 62.5mW 0402; ComponentLink1Description: LCSC; ComponentLink1URL: https://www.lcsc.com/product-detail/C852962.html?s_z=n_q_t_96.5k&spm=wm.fly.bg.0.xh___wm.ssy.tc.0.tz&lcsc_vid=EwRWBFZSQVIPVFdUTlJfVldeFFRYUFQAElRYBFRRE1MxVlNeRFdZVVBVQ1VfVzsOAxUeFF5JWBYZEEoKFBINSQcJGk4dAgUUFAk%3D
simulation model R_Resistor_Default (Model Description)
footprint R0402 (0402)
pins: 1, 2

## RES_100K-0.1W-1%-0402
designator R?, comment 100KΩ
100 kOhms ±1% 0.1W, 1/10W Chip Resistor 0402 (1005 Metric) Anti-Sulfur Thin Film
simulation model R_Resistor_Default (Model Description)
footprint R0402 (0402)
pins: 1, 2

## RES_100K-50mW-1%-0201
designator R?, comment 100KΩ
RES 100kΩ ±1% 50mW 0201; ComponentLink1Description: LCSC; ComponentLink1URL: https://www.lcsc.com/product-detail/C295718.html?s_z=n_q_t_120%2520OHM&spm=wm.fly.bg.5.xh___wm.ssy.tc.1.tz&lcsc_vid=EwRWBFZSQVIPVFdUTlJfVldeFFRYUFQAElRYBFRRE1MxVlNeRFZeU1BfTlBYVzsOAxUeFF5JWBYZEEoKFBINSQcJGk4eFQsCAgIaSgADAwAHC0slRVhcV1ZTT08GEwkK
simulation model R_Resistor_Default (Model Description)
footprint R0201
pins: 1, 2

## RES_100OHM-0.1W-0.1%-0402
designator R?, comment 100Ω
RES 100Ω ±0.1% 62.5mW 0402
simulation model R_Resistor_Default (Model Description)
footprint R0402 (0402)
pins: 1, 2

## RES_100OHM-50mW-1%-0201
designator R?, comment 100Ω
RES 100Ω ±1% 50mW 0201
simulation model R_Resistor_Default (Model Description)
footprint R0201
pins: 1, 2

## RES_120-50mW-1%-0201
designator R?, comment 120Ω
RES 120Ω ±1% 50mW 0201; ComponentLink1Description: LCSC; ComponentLink1URL: https://www.lcsc.com/product-detail/C295718.html?s_z=n_q_t_120%2520OHM&spm=wm.fly.bg.5.xh___wm.ssy.tc.1.tz&lcsc_vid=EwRWBFZSQVIPVFdUTlJfVldeFFRYUFQAElRYBFRRE1MxVlNeRFZeU1BfTlBYVzsOAxUeFF5JWBYZEEoKFBINSQcJGk4eFQsCAgIaSgADAwAHC0slRVhcV1ZTT08GEwkK
simulation model R_Resistor_Default (Model Description)
footprint R0201
pins: 1, 2

## RES_121K-0.1W-1%-0402
designator R?, comment 121kΩ
RES 121kΩ ±0.1% 62.5mW 0402; ComponentLink1Description: LCSC; ComponentLink1URL: https://www.lcsc.com/product-detail/C852503.html?s_z=n_q_t_121K&spm=wm.fly.bg.6.xh___wm.ssy.tc.0.tz&lcsc_vid=EwRWBFZSQVIPVFdUTlJfVldeFFRYUFQAElRYBFRRE1MxVlNeRVlXVlJRRFhXVjsOAxUeFF5JWBYZEEoKFBINSQcJGk4dAgUUFAk%3D
simulation model R_Resistor_Default (Model Description)
footprint R0402 (0402)
pins: 1, 2

## RES_127K-50mW-1%-0201
designator R?, comment 127KΩ
RES 127kΩ ±1% 50mW 0201; ComponentLink1Description: LCSC; ComponentLink1URL: https://www.lcsc.com/product-detail/C295718.html?s_z=n_q_t_120%2520OHM&spm=wm.fly.bg.5.xh___wm.ssy.tc.1.tz&lcsc_vid=EwRWBFZSQVIPVFdUTlJfVldeFFRYUFQAElRYBFRRE1MxVlNeRFZeU1BfTlBYVzsOAxUeFF5JWBYZEEoKFBINSQcJGk4eFQsCAgIaSgADAwAHC0slRVhcV1ZTT08GEwkK
simulation model R_Resistor_Default (Model Description)
footprint R0201
pins: 1, 2

## RES_200K-0.1W-1%-0402
designator R?, comment 200KΩ
200 kOhms ±1% 0.1W, 1/10W Chip Resistor 0402 (1005 Metric) Anti-Sulfur Thin Film
simulation model R_Resistor_Default (Model Description)
footprint R0402 (0402)
pins: 1, 2

## RES_200K-50mW-1%-0201
designator R?, comment 200KΩ
RES 200kΩ ±1% 50mW 0201
simulation model R_Resistor_Default (Model Description)
footprint R0201
pins: 1, 2

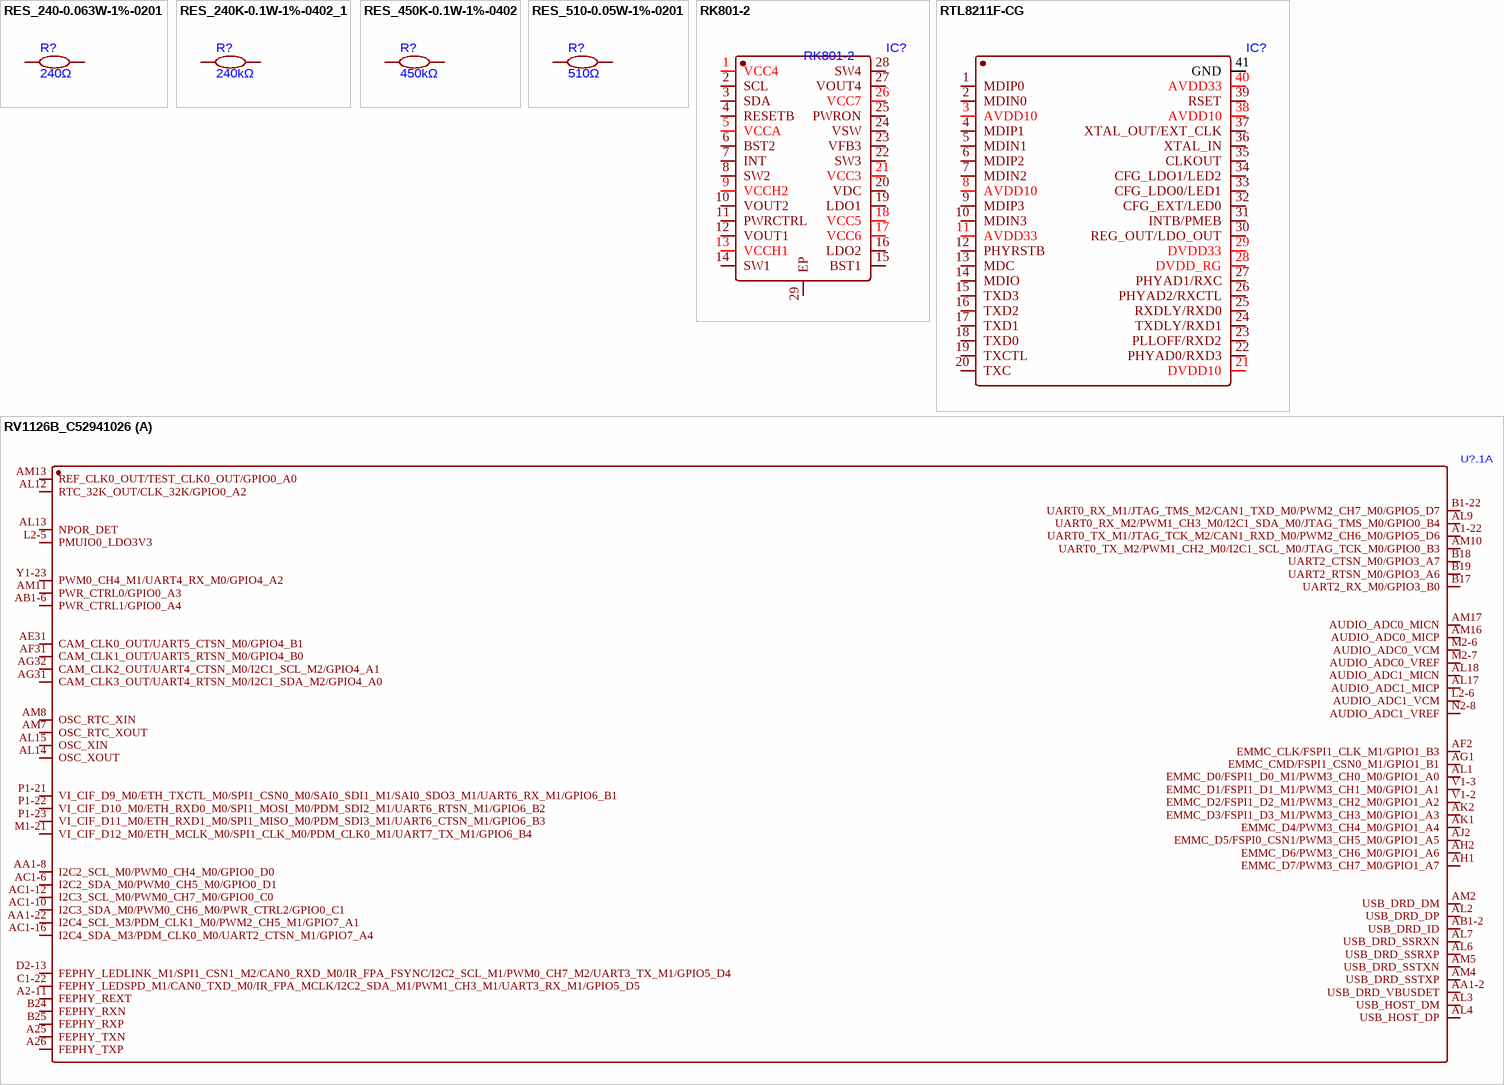
[diagram p8: symbols RES_240-0.063W-1%-0201 to RV1126B_C52941026]

## RES_240-0.063W-1%-0201
designator R?, comment 240Ω
RES 240Ω ±1% 50mW 0201; ComponentLink1Description: LCSC; ComponentLink1URL: https://www.lcsc.com/product-detail/C155745.html?s_z=n_q_t_240%2520OHM&spm=wm.fly.bg.0.xh___wm.ssy.tc.0.tz&lcsc_vid=EwRWBFZSQVIPVFdUTlJfVldeFFRYUFQAElRYBFRRE1MxVlNeRFdWVFBQTlZbVTsOAxUeFF5JWBYZEEoKFBINSQcJGk4dAgUUFAk%3D
simulation model R_Resistor_Default (Model Description)
footprint R0201
pins: 1, 2

## RES_240K-0.1W-1%-0402_1
designator R?, comment 240kΩ
RES 240kΩ ±1% 62.5mW 0402; ComponentLink1Description: LCSC; ComponentLink1URL: https://www.lcsc.com/product-detail/C64043.html?s_z=n_q_t_240K&spm=wm.fly.bg.1.xh___wm.ssy.tc.0.tz&lcsc_vid=EwRWBFZSQVIPVFdUTlJfVldeFFRYUFQAElRYBFRRE1MxVlNeRVlXVlNVTlJWVzsOAxUeFF5JWBYZEEoKFBINSQcJGk4NBhADEA4cHktXRlhXSQwSGg0%3D
simulation model R_Resistor_Default (Model Description)
footprint R0402 (0402)
pins: 1, 2

## RES_450K-0.1W-1%-0402
designator R?, comment 450kΩ
450 kOhms ±1% 0.1W, 1/10W Chip Resistor 0402 (1005 Metric) Anti-Sulfur Thin Film; ComponentLink1Description: LCSC; ComponentLink1URL: https://www.lcsc.com/product-detail/C5159688.html?s_z=n_q_t_450K&spm=wm.fly.bg.0.xh___wm.ssy.tc.1.tz&lcsc_vid=EwRWBFZSQVIPVFdUTlJfVldeFFRYUFQAElRYBFRRE1MxVlNeRVlXUlVeQ1FfUTsOAxUeFF5JWBYZEEoKFBINSQcJGk4NBhADEA4cHktXRlhXSQwSGg0%3D
simulation model R_Resistor_Default (Model Description)
footprint R0402 (0402)
pins: 1, 2

## RES_510-0.05W-1%-0201
designator R?, comment 510Ω
510Ω 50mW 25V Thick Film Resistor ±200ppm/℃ ±1% 0201 Chip Resistor - Surface Mount RoHS
simulation model R_Resistor_Default (Model Description)
footprint R0201
pins: 1, 2

## RK801-2
designator IC?
I2C QFN-28-EP(4x4) Power Management - Specialized RoHS
footprint QFN-28_L4.0-W4.0-P0.40-TL-EP2.4
pins: 1 VCC4, 2 SCL, 3 SDA, 4 RESETB, 5 VCCA, 6 BST2, 7 INT, 8 SW2, 9 VCCH2, 10 VOUT2, 11 PWRCTRL, 12 VOUT1, 13 VCCH1, 14 SW1, 15 BST1, 16 LDO2, 17 VCC6, 18 VCC5, 19 LDO1, 20 VDC, 21 VCC3, 22 SW3, 23 VFB3, 24 VSW, 25 PWRON, 26 VCC7, 27 VOUT4, 28 SW4, 29 EP

## RTL8211F-CG
designator IC?  (value not drawn)
Integrated 10/100/1000M Ethernet Precision Transceiver
footprint WQFN-40_L5.0-W5.0-P0.4-BL-EP
pins: 1 MDIP0, 2 MDIN0, 3 AVDD10, 4 MDIP1, 5 MDIN1, 6 MDIP2, 7 MDIN2, 8 AVDD10, 9 MDIP3, 10 MDIN3, 11 AVDD33, 12 PHYRSTB, 13 MDC, 14 MDIO, 15 TXD3, 16 TXD2, 17 TXD1, 18 TXD0, 19 TXCTL, 20 TXC, 21 DVDD10, 22 PHYAD0/RXD3, 23 PLLOFF/RXD2, 24 TXDLY/RXD1, 25 RXDLY/RXD0, 26 PHYAD2/RXCTL, 27 PHYAD1/RXC, 28 DVDD_RG, 29 DVDD33, 30 REG_OUT/LDO_OUT, 31 INTB/PMEB, 32 CFG_EXT/LED0, 33 CFG_LDO0/LED1, 34 CFG_LDO1/LED2, 35 CLKOUT, 36 XTAL_IN, 37 XTAL_OUT/EXT_CLK, 38 AVDD10, 39 RSET, 40 AVDD33, 41 GND

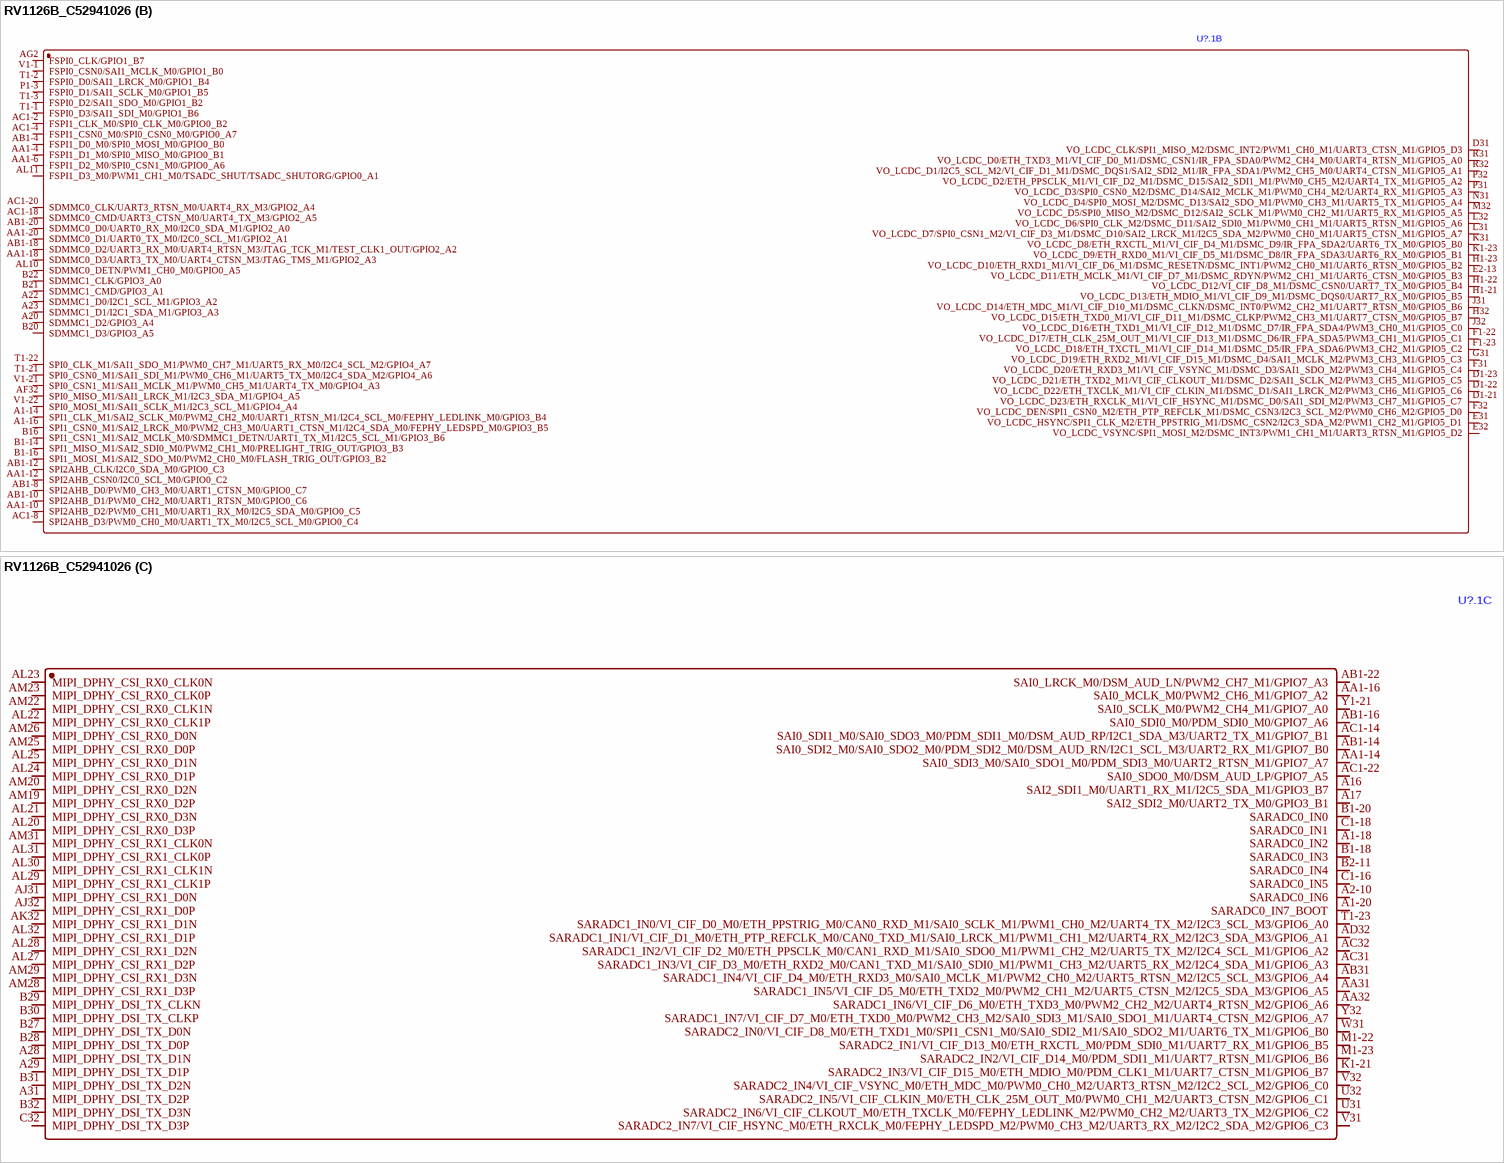
[diagram p9: symbol RV1126B_C52941026]

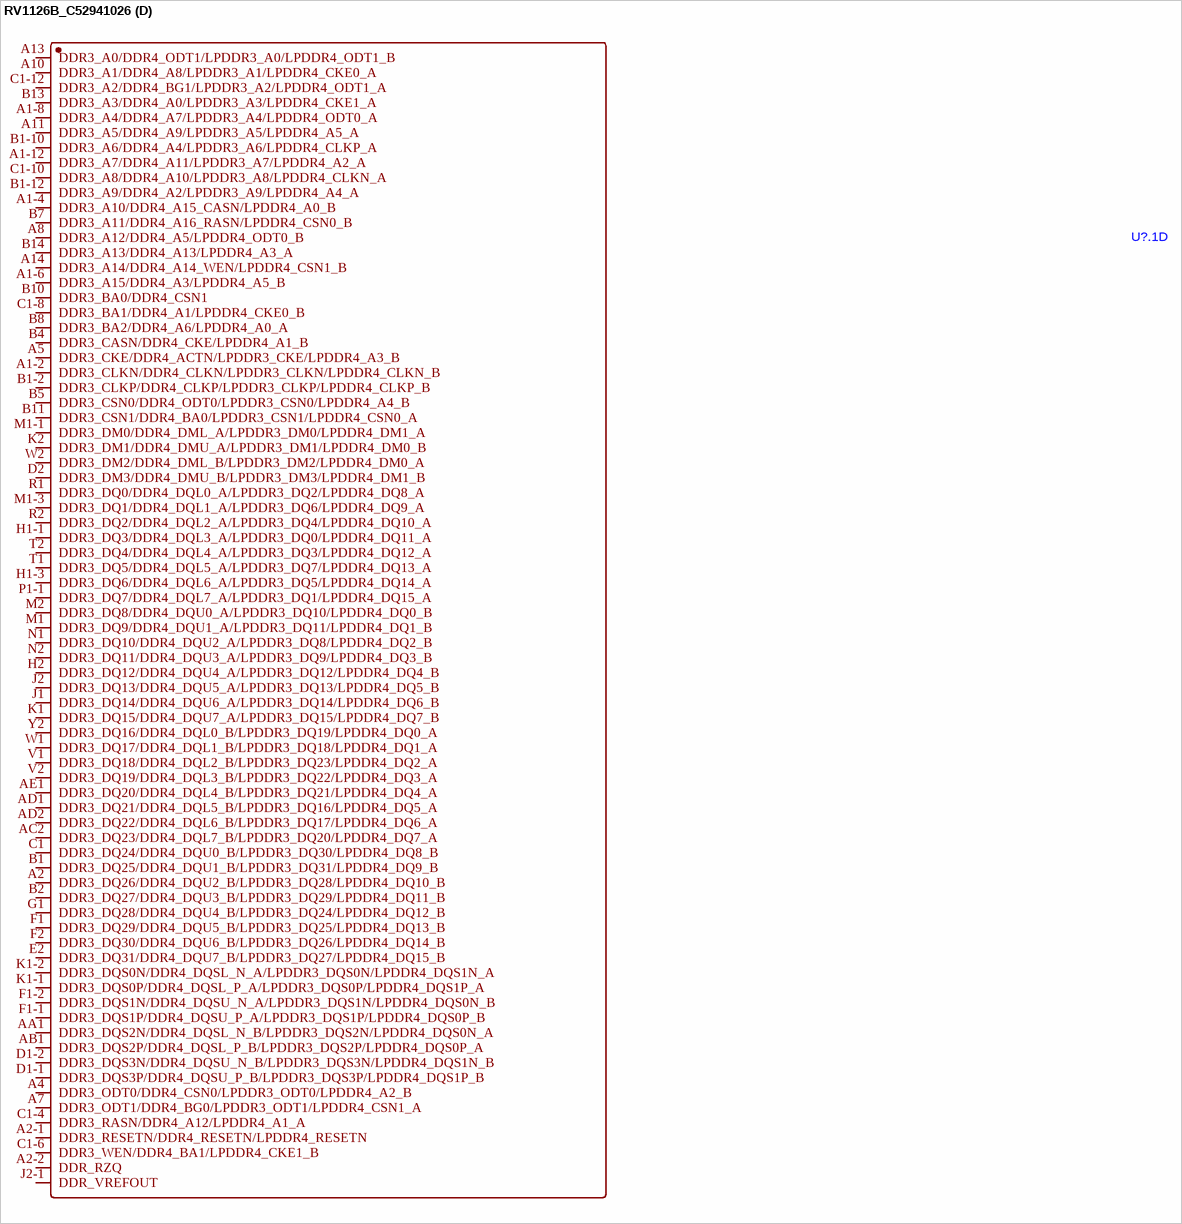
[diagram p10: symbol RV1126B_C52941026]

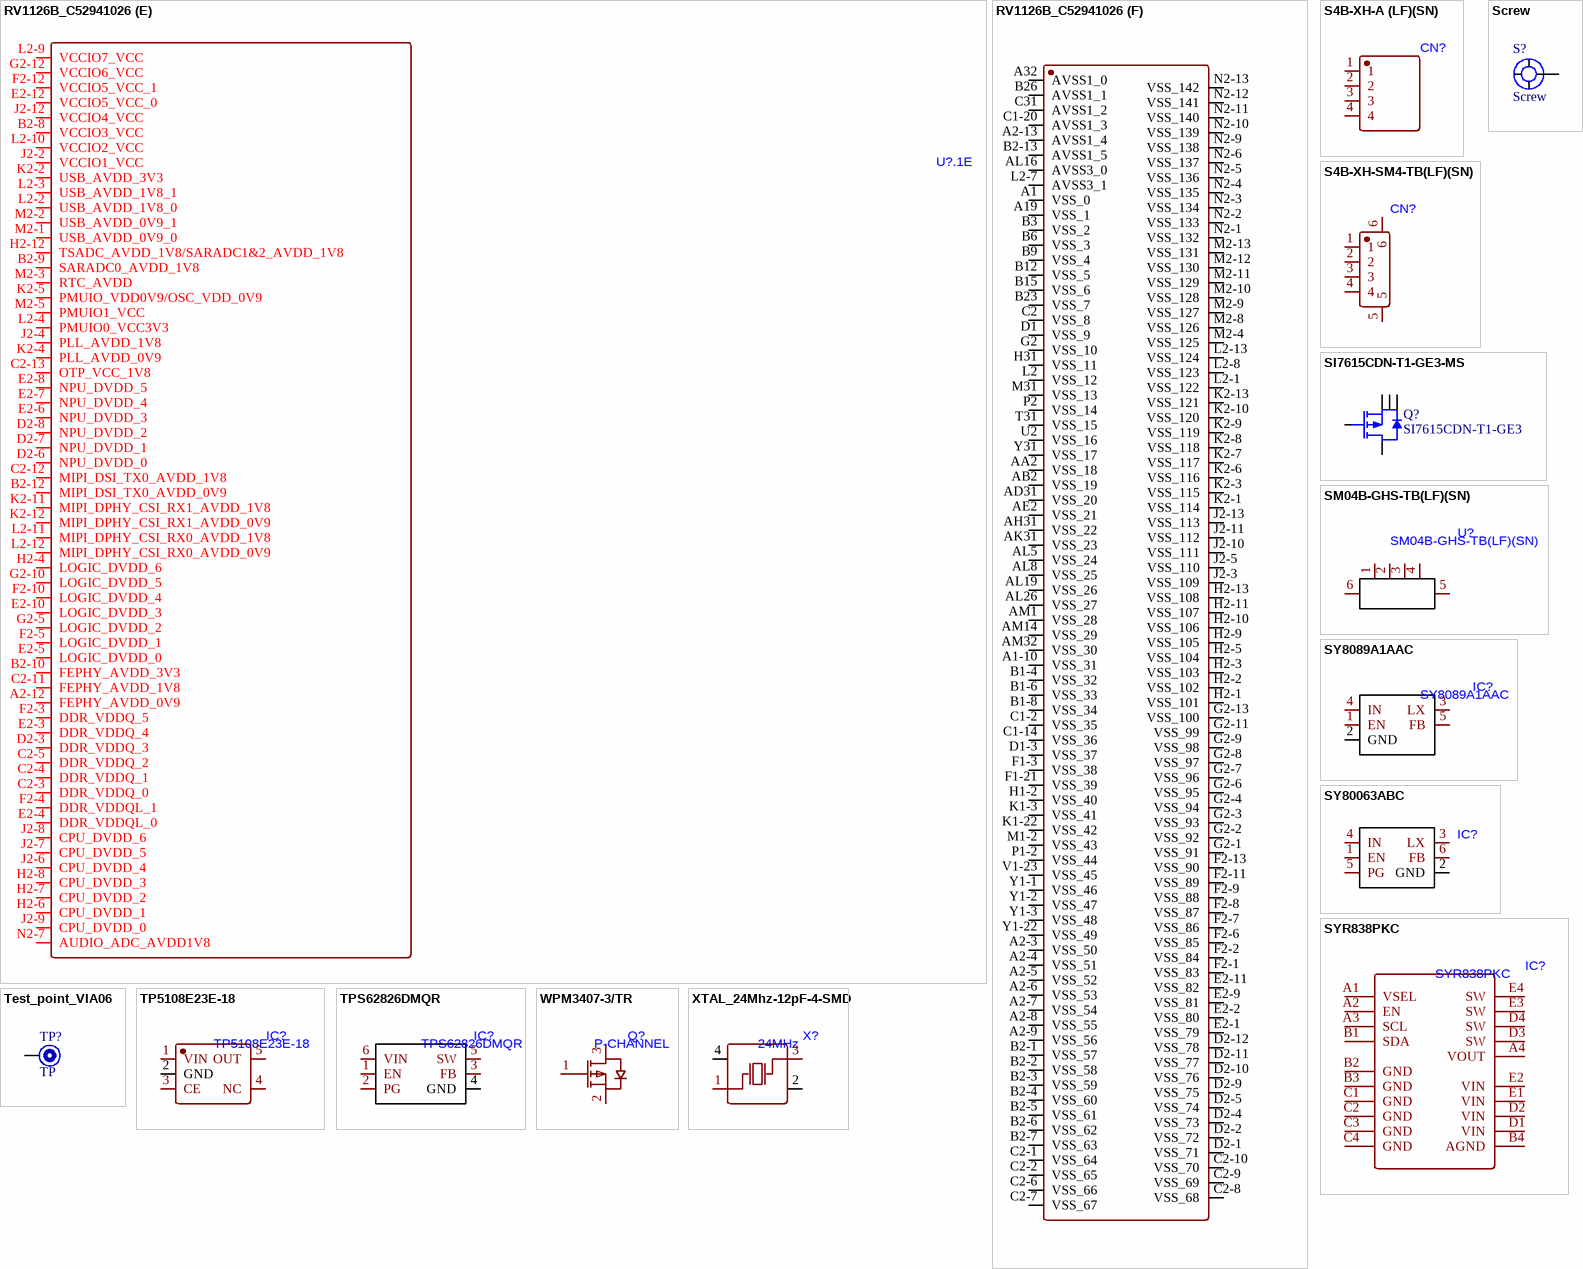
[diagram p11: symbols RV1126B_C52941026 to XTAL_24Mhz-12pF-4-SMD]